# Altium schematic symbol library PowerProducts.SCHLIB: 595 symbols (part 5 of 6)

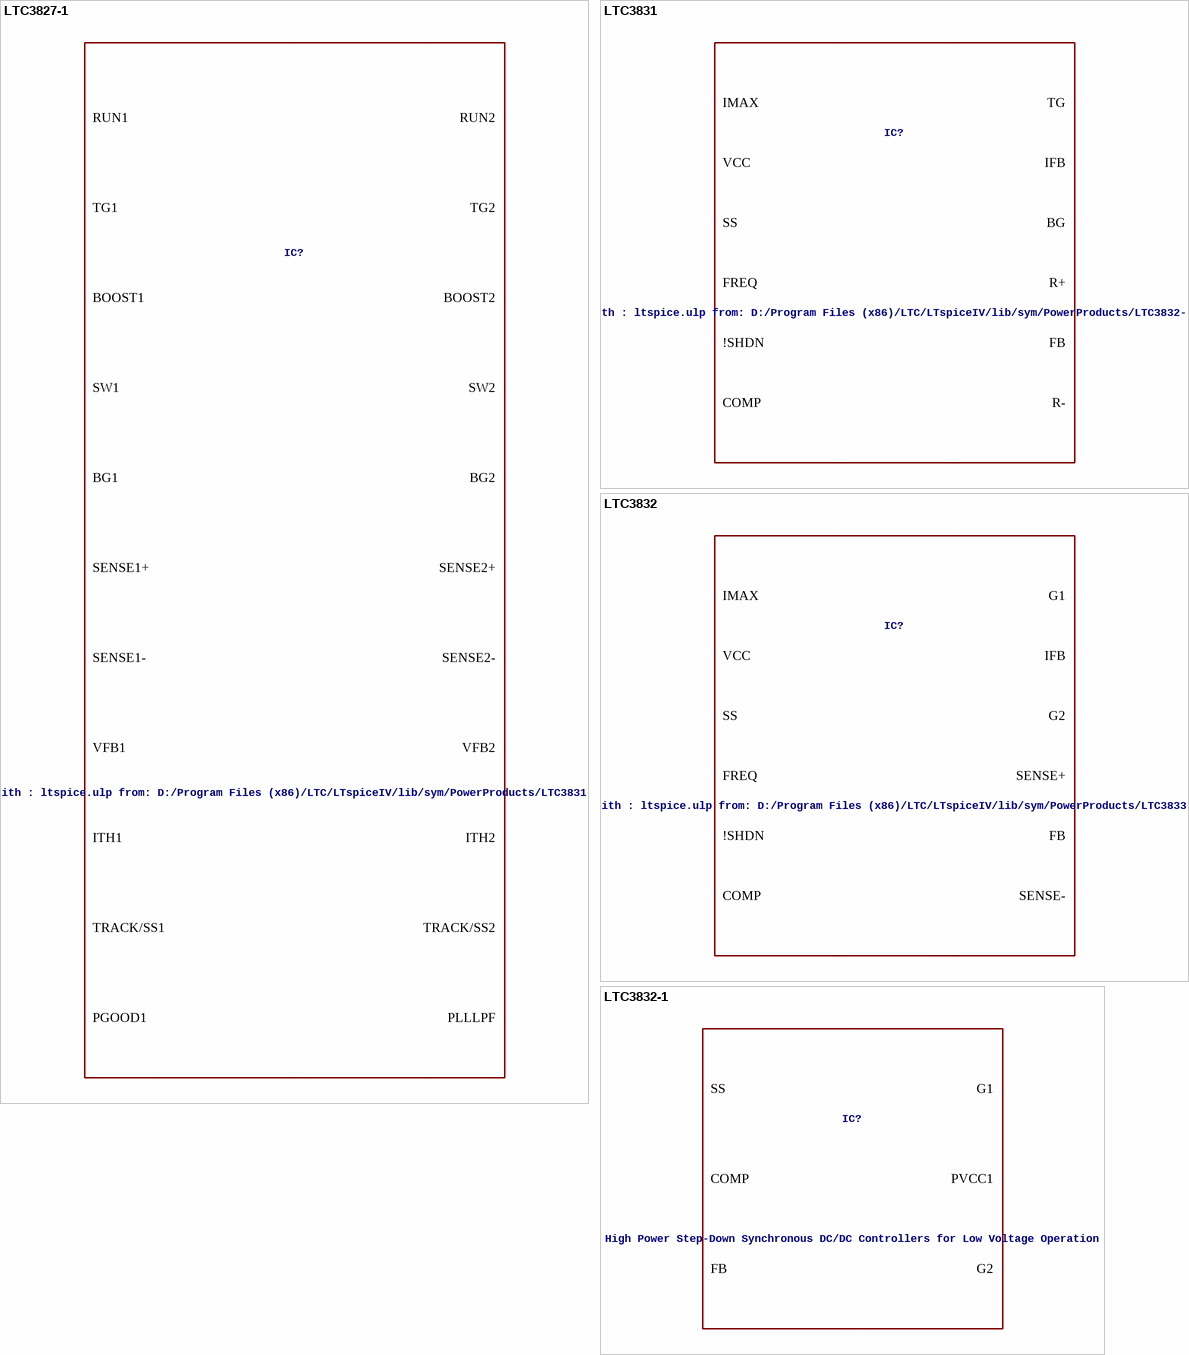
[diagram p89: symbols LTC3827-1 to LTC3832-1]

## LTC3827-1
designator IC?, comment LT-Spice library generated with : ltspice.ulp from: D:/Program Files (x86)/LTC/LTspiceIV/lib/sym/PowerProducts/LTC3831*.asy at 07.10.2012 18:38:17
VALUE2: LTC3827-1; SPICEMODEL: LTC3827-1.sub; SPICEPREFIX: X
footprint SSOP28(G)
pins: 1 ITH1, 2 VFB1, 3 SENSE1+, 4 SENSE1-, 5 PLLLPF, 6 PLLIN/MODE, 7 SGND, 8 RUN1, 9 RUN2, 10 SENSE2-, 11 SENSE2+, 12 VFB2, 13 ITH2, 14 TRACK/SS2, 15 TG2, 16 SW2, 17 BOOST2, 18 BG2, 19 INTVCC, 20 EXTVCC, 21 PGND, 22 VIN, 23 BG1, 24 BOOST1, 25 SW1, 26 TG1, 27 PGOOD1, 28 TRACK/SS1

## LTC3831
designator IC?, comment LT-Spice library generated with : ltspice.ulp from: D:/Program Files (x86)/LTC/LTspiceIV/lib/sym/PowerProducts/LTC3832-1*.asy at 07.10.2012 18:38:28
VALUE2: LTC3831; SPICEMODEL: LTC3831.sub; SPICEPREFIX: X
footprint SSOP16(GN)
pins: 1 TG, 2 PVCC1, 3 PGND, 4 SGND, 5 R-, 6 FB, 7 R+, 8 !SHDN, 9 SS, 10 COMP, 11 FREQ, 12 IMAX, 13 IFB, 14 VCC, 15 PVCC2, 16 BG

## LTC3832
designator IC?, comment LT-Spice library generated with : ltspice.ulp from: D:/Program Files (x86)/LTC/LTspiceIV/lib/sym/PowerProducts/LTC3833*.asy at 07.10.2012 18:38:37
VALUE2: LTC3832; SPICEMODEL: LTC3832.sub; SPICEPREFIX: X
footprint SSOP16(GN)
pins: 1 G1, 2 PVCC1, 3 PGND, 4 SGND, 5 SENSE-, 6 FB, 7 SENSE+, 8 !SHDN, 9 SS, 10 COMP, 11 FREQ, 12 IMAX, 13 IFB, 14 VCC, 15 PVCC2, 16 G2

## LTC3832-1
designator IC?, comment High Power Step-Down Synchronous DC/DC Controllers for Low Voltage Operation
VALUE2: LTC3832-1; SPICEMODEL: LTC3832-1.sub; SPICEPREFIX: X
footprint SO8(S8)
pins: 1 G1, 2 PVCC1, 3 GND, 4 FB, 5 SS, 6 COMP, 7 VCC/PVCC2, 8 G2

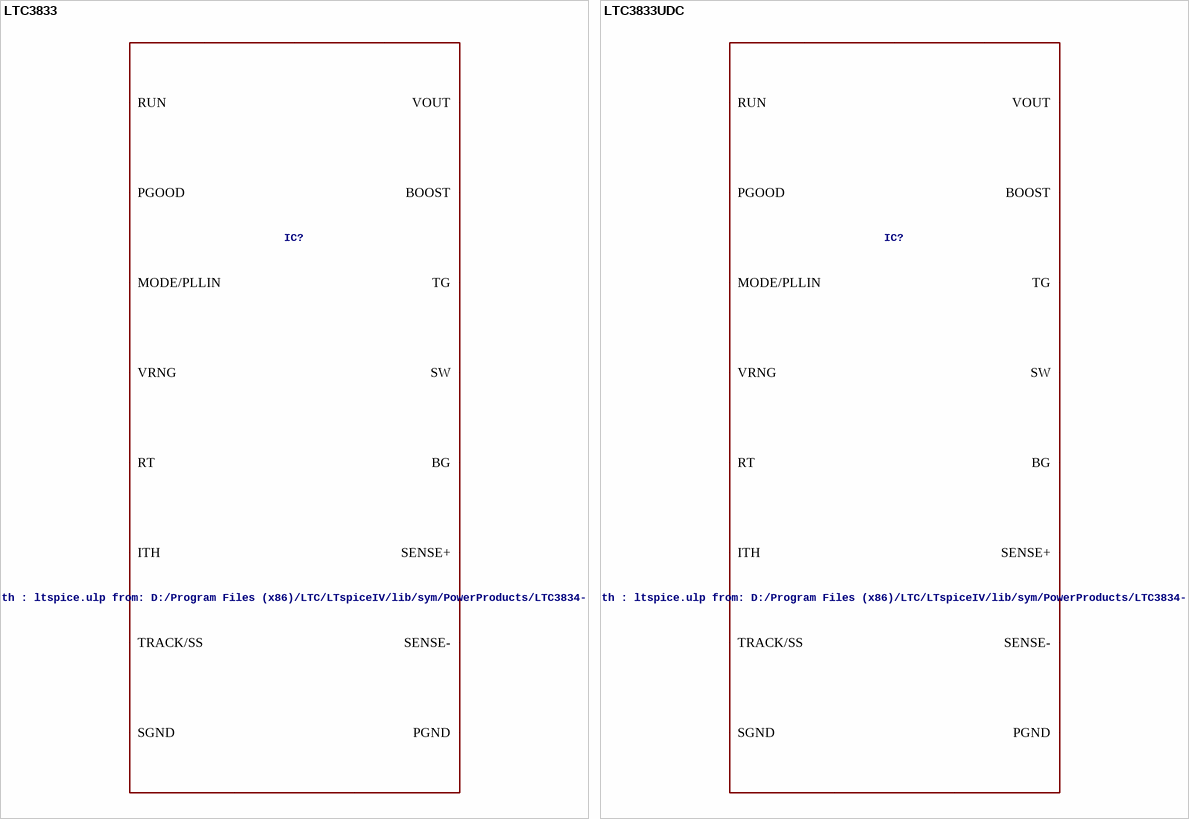
[diagram p90: symbols LTC3833 to LTC3833UDC]

## LTC3833
designator IC?, comment LT-Spice library generated with : ltspice.ulp from: D:/Program Files (x86)/LTC/LTspiceIV/lib/sym/PowerProducts/LTC3834-1*.asy at 07.10.2012 18:38:47
VALUE2: LTC3833; SPICEMODEL: LTC3833.sub; SPICEPREFIX: X
footprint TSSOP20CB(FE)
pins: 1 PGOOD, 2 SENSE+, 3 SENSE-, 4 VOUT, 5 VOSNS-, 6 VOSNS+, 7 TRACK/SS, 8 ITH, 9 VRNG, 10 RT, 11 RUN, 12 EXTVCC, 13 MODE/PLLIN, 14 VIN, 15 INTVCC, 16 PGND, 17 BG, 18 SW, 19 TG, 20 BOOST, 21 SGND

## LTC3833UDC
designator IC?, comment LT-Spice library generated with : ltspice.ulp from: D:/Program Files (x86)/LTC/LTspiceIV/lib/sym/PowerProducts/LTC3834-1*.asy at 07.10.2012 18:38:47
VALUE2: LTC3833; SPICEMODEL: LTC3833.sub; SPICEPREFIX: X
footprint QFN20(UDC)
pins: 1 VOSNS-, 2 VOSNS+, 3 TRACK/SS, 4 ITH, 5 VRNG, 6 RT, 7 RUN, 8 EXTVCC, 9 MODE/PLLIN, 10 VIN, 11 INTVCC, 12 PGND, 13 BG, 14 SW, 15 TG, 16 BOOST, 17 PGOOD, 18 SENSE+, 19 SENSE-, 20 VOUT, 21 SGND

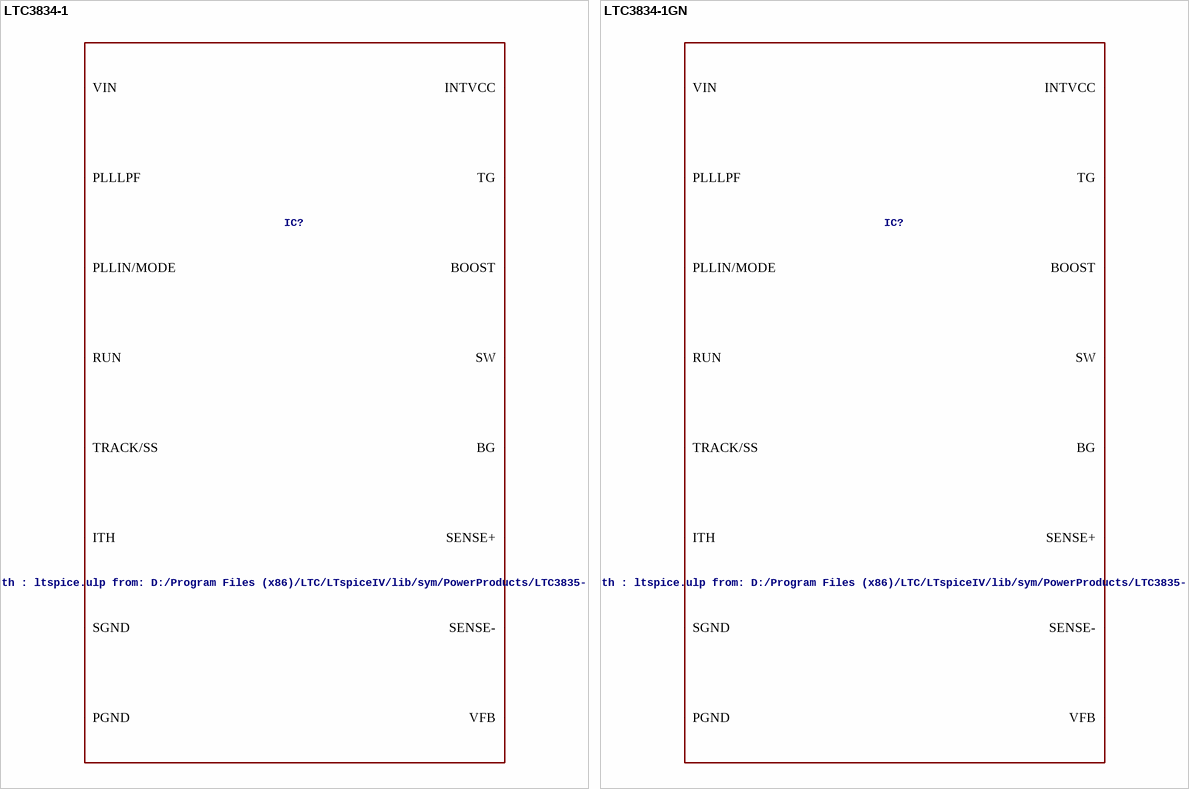
[diagram p91: symbols LTC3834-1 to LTC3834-1GN]

## LTC3834-1
designator IC?, comment LT-Spice library generated with : ltspice.ulp from: D:/Program Files (x86)/LTC/LTspiceIV/lib/sym/PowerProducts/LTC3835-1*.asy at 07.10.2012 18:38:58
VALUE2: LTC3834-1; SPICEMODEL: LTC3834-1.sub; SPICEPREFIX: X
footprint DFN16(DHC)
pins: 1 PLLLPF, 2 ITH, 3 TRACK/SS, 4 VFB, 5 17 SGND, 6 PGND, 7 BG, 8 INTVCC, 9 VIN, 10 SW, 11 TG, 12 BOOST, 13 RUN, 14 SENSE-, 15 SENSE+, 16 PLLIN/MODE

## LTC3834-1GN
designator IC?, comment LT-Spice library generated with : ltspice.ulp from: D:/Program Files (x86)/LTC/LTspiceIV/lib/sym/PowerProducts/LTC3835-1*.asy at 07.10.2012 18:38:58
VALUE2: LTC3834-1; SPICEMODEL: LTC3834-1.sub; SPICEPREFIX: X
footprint SSOP16(GN)
pins: 1 PLLLPF, 2 ITH, 3 TRACK/SS, 4 VFB, 5 SGND, 6 PGND, 7 BG, 8 INTVCC, 9 VIN, 10 SW, 11 TG, 12 BOOST, 13 RUN, 14 SENSE-, 15 SENSE+, 16 PLLIN/MODE

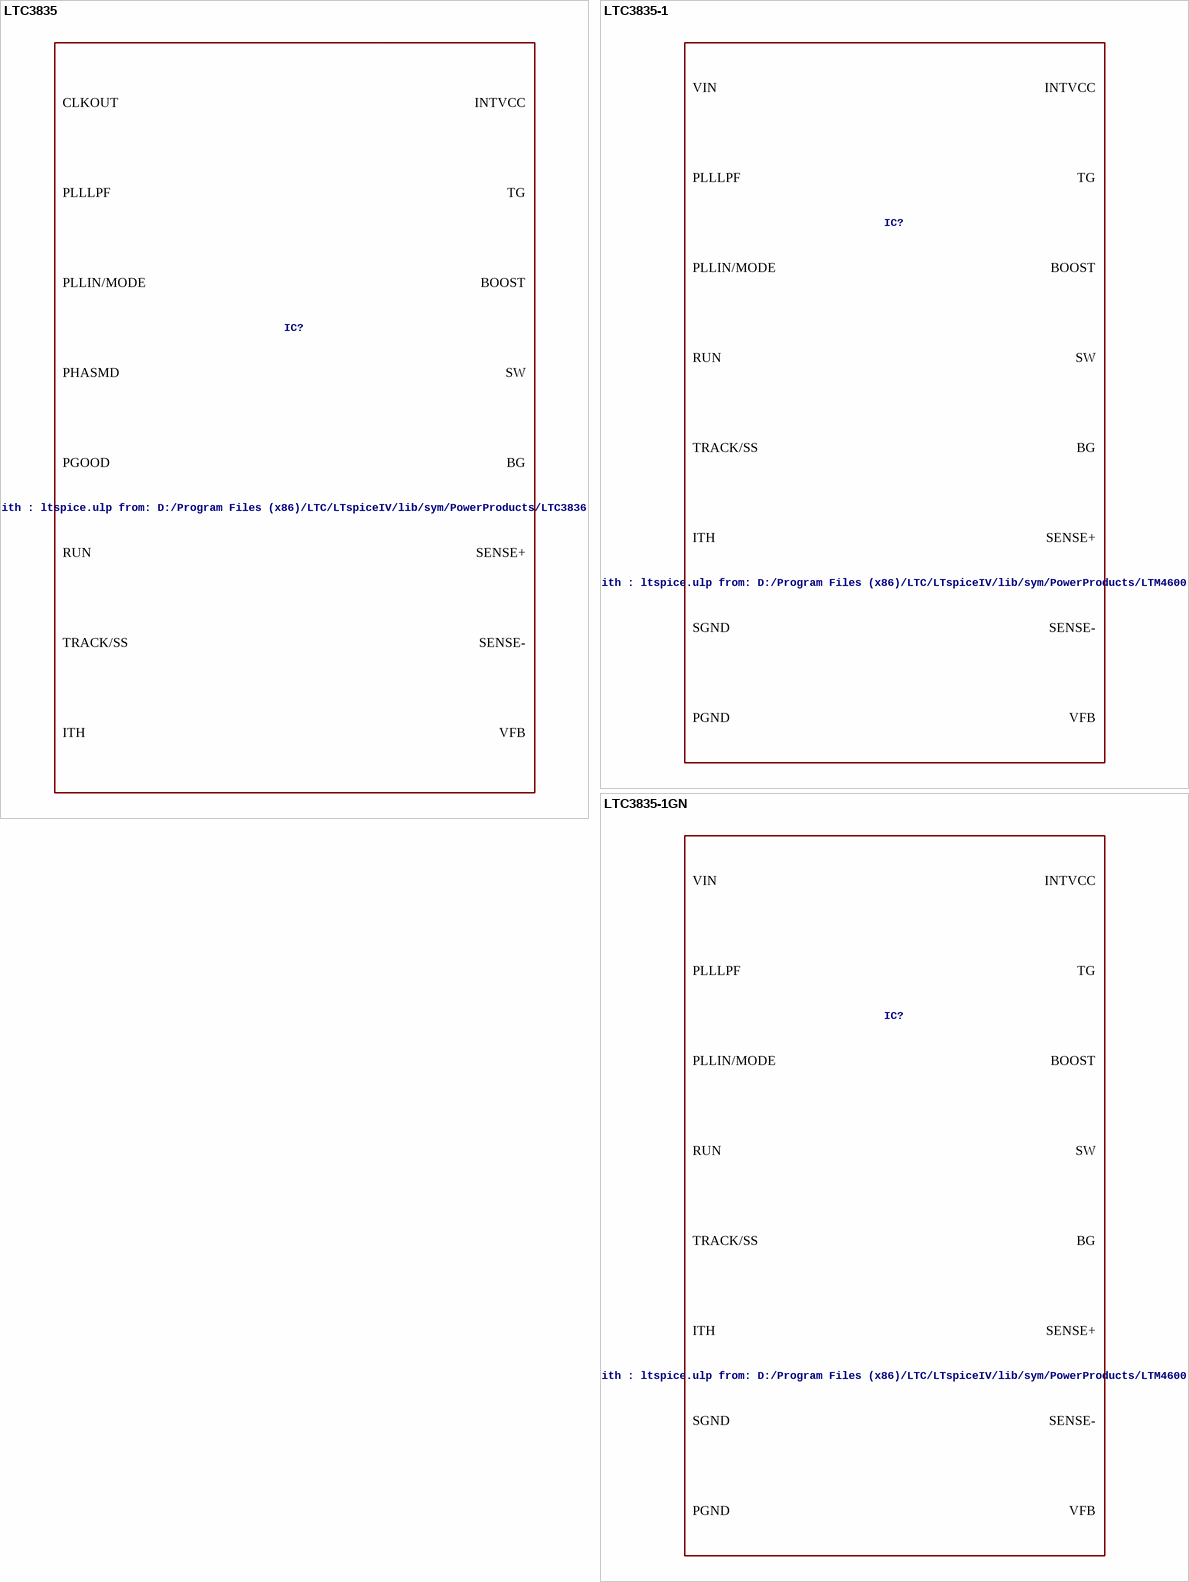
[diagram p92: symbols LTC3835 to LTC3835-1GN]

## LTC3835
designator IC?, comment LT-Spice library generated with : ltspice.ulp from: D:/Program Files (x86)/LTC/LTspiceIV/lib/sym/PowerProducts/LTC3836*.asy at 07.10.2012 18:39:33
VALUE2: LTC3835; SPICEMODEL: LTC3835.sub; SPICEPREFIX: X
footprint TSSOP20CB(FE)
pins: 1 CLKOUT, 2 PLLLPF, 3 ITH, 4 TRACK/SS, 5 VFB, 6 21 SGND, 7 PGND, 8 BG, 9 INTVCC, 10 EXTVCC, 11 VIN, 12 SW, 13 TG, 14 BOOST, 15 RUN, 16 SENSE-, 17 SENSE+, 18 PGOOD, 19 PLLIN/MODE, 20 PHASMD

## LTC3835-1
designator IC?, comment LT-Spice library generated with : ltspice.ulp from: D:/Program Files (x86)/LTC/LTspiceIV/lib/sym/PowerProducts/LTM4600*.asy at 07.10.2012 18:46:03
VALUE2: LTC3835-1; SPICEMODEL: LTC3835-1.sub; SPICEPREFIX: X
footprint DFN16(DHC)
pins: 1 PLLLPF, 2 ITH, 3 TRACK/SS, 4 VFB, 5 17 SGND, 6 PGND, 7 BG, 8 INTVCC, 9 VIN, 10 SW, 11 TG, 12 BOOST, 13 RUN, 14 SENSE-, 15 SENSE+, 16 PLLIN/MODE

## LTC3835-1GN
designator IC?, comment LT-Spice library generated with : ltspice.ulp from: D:/Program Files (x86)/LTC/LTspiceIV/lib/sym/PowerProducts/LTM4600*.asy at 07.10.2012 18:46:03
VALUE2: LTC3835-1; SPICEMODEL: LTC3835-1.sub; SPICEPREFIX: X
footprint SSOP16(GN)
pins: 1 PLLLPF, 2 ITH, 3 TRACK/SS, 4 VFB, 5 SGND, 6 PGND, 7 BG, 8 INTVCC, 9 VIN, 10 SW, 11 TG, 12 BOOST, 13 RUN, 14 SENSE-, 15 SENSE+, 16 PLLIN/MODE

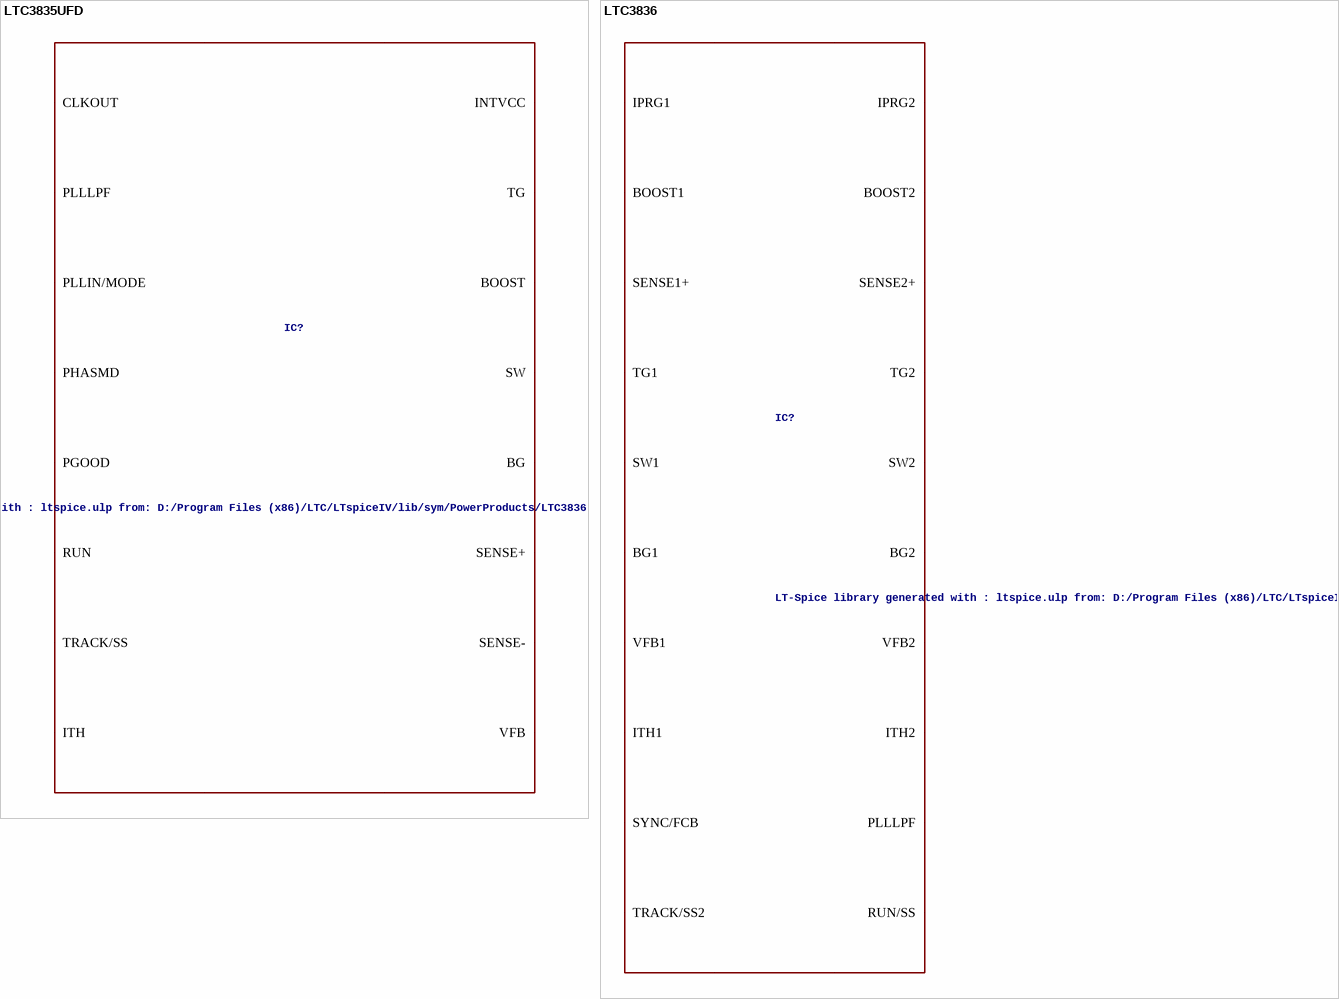
[diagram p93: symbols LTC3835UFD to LTC3836]

## LTC3835UFD
designator IC?, comment LT-Spice library generated with : ltspice.ulp from: D:/Program Files (x86)/LTC/LTspiceIV/lib/sym/PowerProducts/LTC3836*.asy at 07.10.2012 18:39:33
VALUE2: LTC3835; SPICEMODEL: LTC3835.sub; SPICEPREFIX: X
footprint QFN20(UFD)
pins: 1 ITH, 2 TRACK/SS, 3 VFB, 4 21 SGND, 5 PGND, 6 BG, 7 INTVCC, 8 EXTVCC, 9 VIN, 10 SW, 11 TG, 12 BOOST, 13 RUN, 14 SENSE-, 15 SENSE+, 16 PGOOD, 17 PLLIN/MODE, 18 PHASMD, 19 CLKOUT, 20 PLLLPF

## LTC3836
designator IC?, comment LT-Spice library generated with : ltspice.ulp from: D:/Program Files (x86)/LTC/LTspiceIV/lib/sym/PowerProducts/LTC3850-1*.asy at 07.10.2012 18:41:22
VALUE2: LTC3836; SPICEMODEL: LTC3836.sub; SPICEPREFIX: X
footprint SSOP28(GN)
pins: 1 SW1, 3 IPRG1, 4 VFB1, 5 ITH1, 6 IPRG2, 7 PLLLPF, 8 SGND, 9 VIN, 10 TRACK/SS2, 11 VFB2, 12 ITH2, 13 PGOOD, 14 SW2, 15 SENSE2+, 16 BOOST2, 17 22 26 PGND, 19 BG2, 20 RUN/SS, 21 TG2, 23 TG1, 24 SYNC/FCB, 25 BG1, 27 BOOST1, 28 SENSE1+

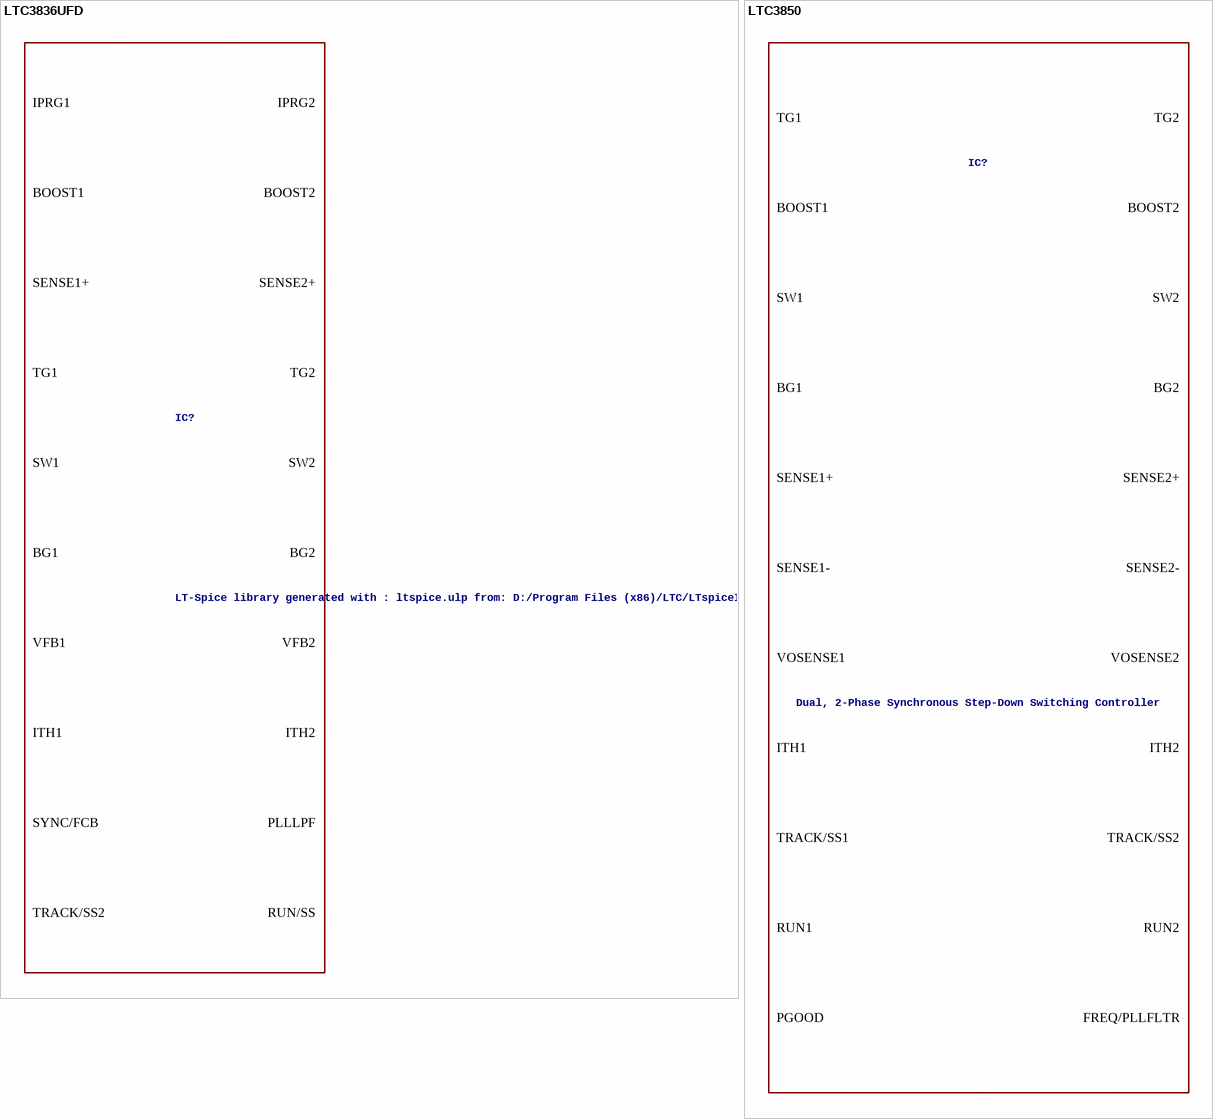
[diagram p94: symbols LTC3836UFD to LTC3850]

## LTC3836UFD
designator IC?, comment LT-Spice library generated with : ltspice.ulp from: D:/Program Files (x86)/LTC/LTspiceIV/lib/sym/PowerProducts/LTC3850-1*.asy at 07.10.2012 18:41:22
VALUE2: LTC3836; SPICEMODEL: LTC3836.sub; SPICEPREFIX: X
footprint QFN28(UFD)
pins: 1 VFB1, 2 ITH1, 3 IPRG2, 4 PLLLPF, 5 SGND, 6 VIN, 7 TRACK/SS2, 8 VFB2, 9 ITH2, 10 PGOOD, 11 SW2, 12 SENSE2+, 13 BOOST2, 14 19 23 29 PGND, 15 BG2, 17 RUN/SS, 18 TG2, 20 TG1, 21 SYNC/FCB, 22 BG1, 24 BOOST1, 25 SENSE1+, 26 SW1, 27 IPRG1

## LTC3850
designator IC?, comment Dual, 2-Phase Synchronous Step-Down Switching Controller
VALUE2: LTC3850; SPICEMODEL: LTC3850.sub; SPICEPREFIX: X
footprint QFN28(UF)
pins: 1 TRACK/SS1, 2 ITH1, 3 VOSENSE1, 4 VOSENSE2, 5 ITH2, 6 TRACK/SS2, 7 SENSE2-, 8 SENSE2+, 9 RUN2, 10 ILIM, 11 EXTVCC, 12 PGOOD, 13 SW2, 14 TG2, 15 BOOST2, 16 PGND, 17 BG2, 18 INTVCC, 19 VIN, 20 BG1, 21 BOOST1, 22 TG1, 23 SW1, 24 FCB/PLLIN, 25 FREQ/PLLFLTR, 26 RUN1, 27 SENSE1+, 28 SENSE1-, 29 SGND

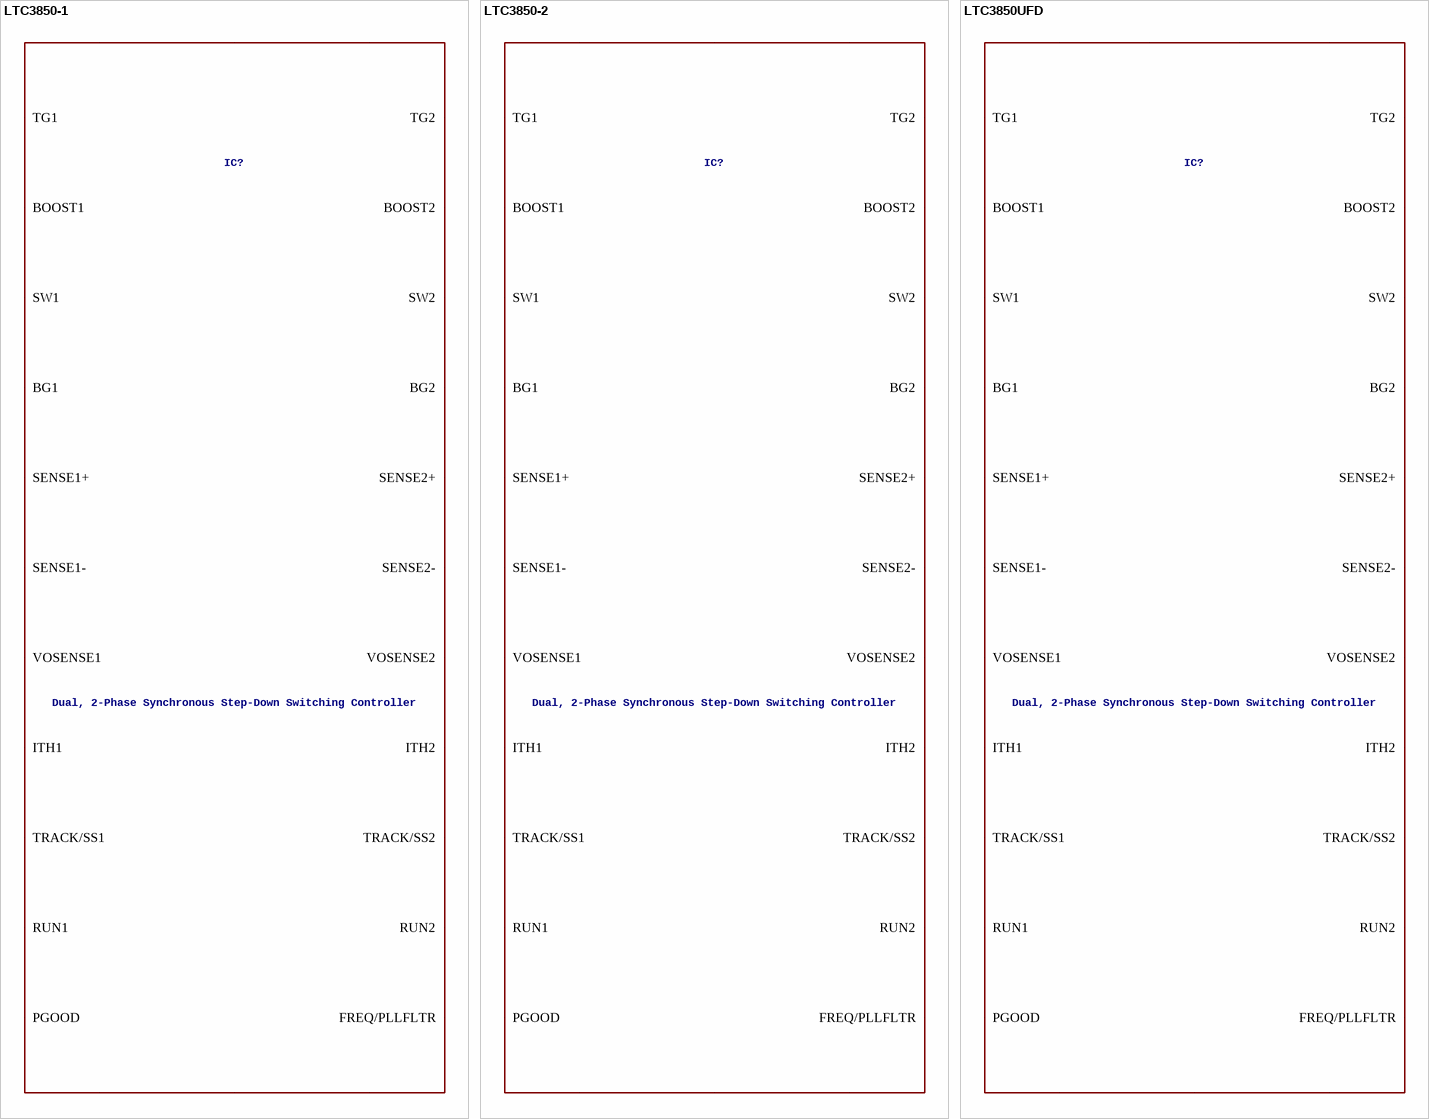
[diagram p95: symbols LTC3850-1 to LTC3850UFD]

## LTC3850-1
designator IC?, comment Dual, 2-Phase Synchronous Step-Down Switching Controller
VALUE2: LTC3850-1; SPICEMODEL: LTC3850-1.sub; SPICEPREFIX: X
footprint SSOP28(GN)
pins: 1 RUN1, 2 SENSE1+, 3 SENSE1-, 4 TRACK/SS1, 5 ITH1, 6 VOSENSE1, 7 SGND, 8 VOSENSE2, 9 ITH2, 10 TRACK/SS2, 11 SENSE2-, 12 SENSE2+, 13 RUN2, 14 EXTVCC, 15 PGOOD, 16 SW2, 17 TG2, 18 BOOST2, 19 PGND, 20 BG2, 21 INTVCC, 22 VIN, 23 BG1, 24 BOOST1, 25 TG1, 26 SW1, 27 FCB/PLLIN, 28 FREQ/PLLFLTR

## LTC3850-2
designator IC?, comment Dual, 2-Phase Synchronous Step-Down Switching Controller
VALUE2: LTC3850-1; SPICEMODEL: LTC3850-1.sub; SPICEPREFIX: X
footprint SSOP28(GN)
pins: 1 RUN1, 2 SENSE1+, 3 SENSE1-, 4 VOSENSE1, 5 TRACK/SS1, 6 ITH1, 7 SGND, 8 ITH2, 9 TRACK/SS2, 10 VOSENSE2, 11 SENSE2-, 12 SENSE2+, 13 RUN2, 14 EXTVCC, 15 PGOOD, 16 SW2, 17 TG2, 18 BOOST2, 19 PGND, 20 BG2, 21 INTVCC, 22 VIN, 23 BG1, 24 BOOST1, 25 TG1, 26 SW1, 27 FCB/PLLIN, 28 FREQ/PLLFLTR

## LTC3850UFD
designator IC?, comment Dual, 2-Phase Synchronous Step-Down Switching Controller
VALUE2: LTC3850; SPICEMODEL: LTC3850.sub; SPICEPREFIX: X
footprint QFN28(UFD)
pins: 1 SENSE1-, 2 TRACK/SS1, 3 ITH1, 4 VOSENSE1, 5 VOSENSE2, 6 ITH2, 7 TRACK/SS2, 8 SENSE2-, 9 SENSE2+, 10 RUN2, 11 ILIM, 12 EXTVCC, 13 PGOOD, 14 SW2, 15 TG2, 16 BOOST2, 17 PGND, 18 BG2, 19 INTVCC, 20 VIN, 21 BG1, 22 BOOST1, 23 TG1, 24 SW1, 25 FCB/PLLIN, 26 FREQ/PLLFLTR, 27 RUN1, 28 SENSE1+, 29 SGND

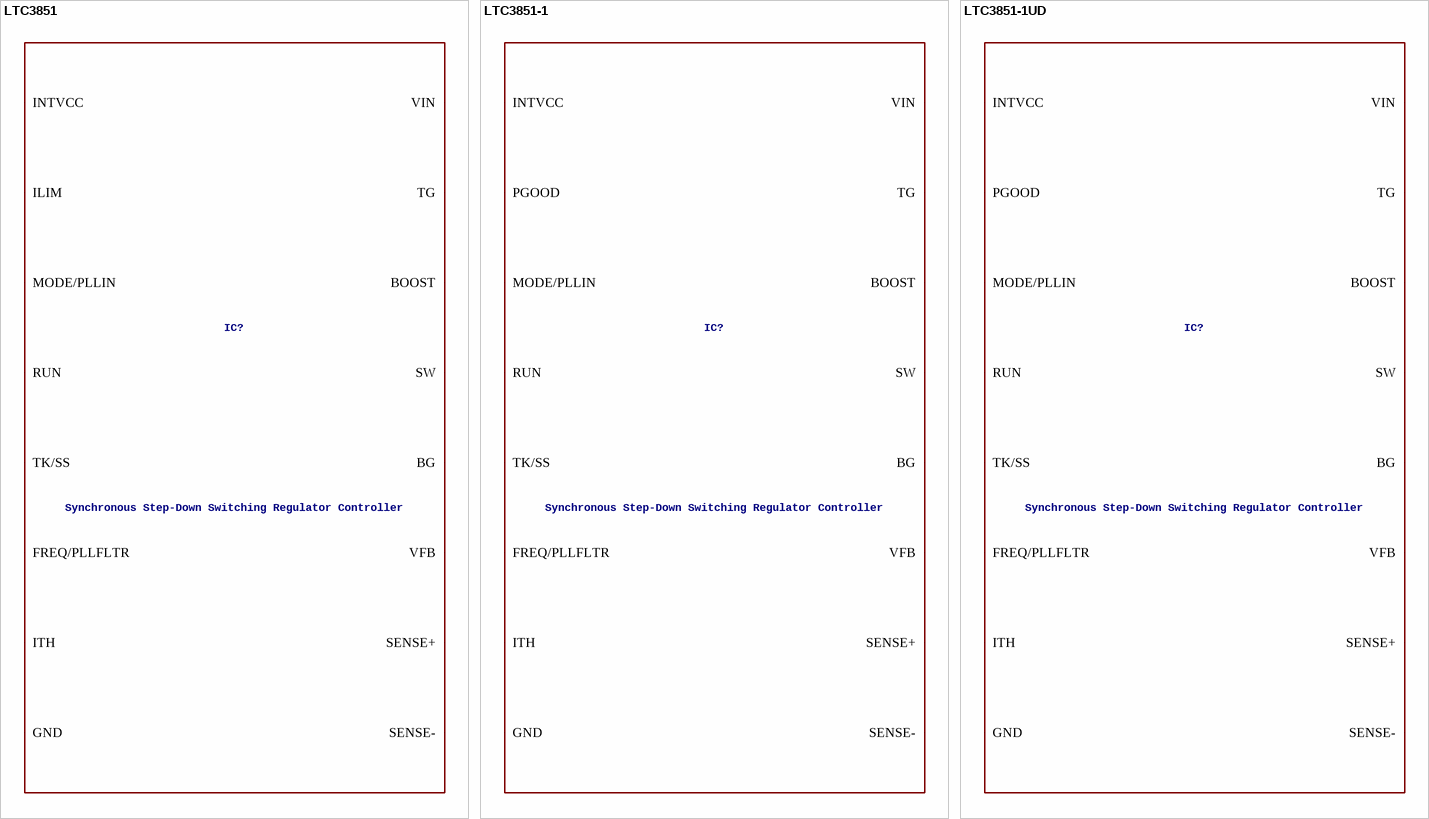
[diagram p96: symbols LTC3851 to LTC3851-1UD]

## LTC3851
designator IC?, comment Synchronous Step-Down Switching Regulator Controller
VALUE2: LTC3851; SPICEMODEL: LTC3851.sub; SPICEPREFIX: X
footprint SSOP16(GN)
pins: 1 MODE/PLLIN, 2 FREQ/PLLFLTR, 3 RUN, 4 TK/SS, 5 ITH, 6 VFB, 7 SENSE-, 8 SENSE+, 9 ILIM, 10 GND, 11 BG, 12 INTVCC, 13 VIN, 14 BOOST, 15 TG, 16 SW

## LTC3851-1
designator IC?, comment Synchronous Step-Down Switching Regulator Controller
VALUE2: LTC3851-1; SPICEMODEL: LTC3851-1.sub; SPICEPREFIX: X
footprint MSOP16(MSE)
pins: 1 MODE/PLLIN, 2 FREQ/PLLFLTR, 3 RUN, 4 TK/SS, 5 ITH, 6 VFB, 7 SENSE-, 8 SENSE+, 9 PGOOD, 10 17 GND, 11 BG, 12 INTVCC, 13 VIN, 14 BOOST, 15 TG, 16 SW

## LTC3851-1UD
designator IC?, comment Synchronous Step-Down Switching Regulator Controller
VALUE2: LTC3851-1; SPICEMODEL: LTC3851-1.sub; SPICEPREFIX: X
footprint QFN16(UD)
pins: 1 RUN, 2 TK/SS, 3 ITH, 4 VFB, 5 SENSE-, 6 SENSE+, 7 PGOOD, 8 17 GND, 9 BG, 10 INTVCC, 11 VIN, 12 BOOST, 13 TG, 14 SW, 15 MODE/PLLIN, 16 FREQ/PLLFLTR

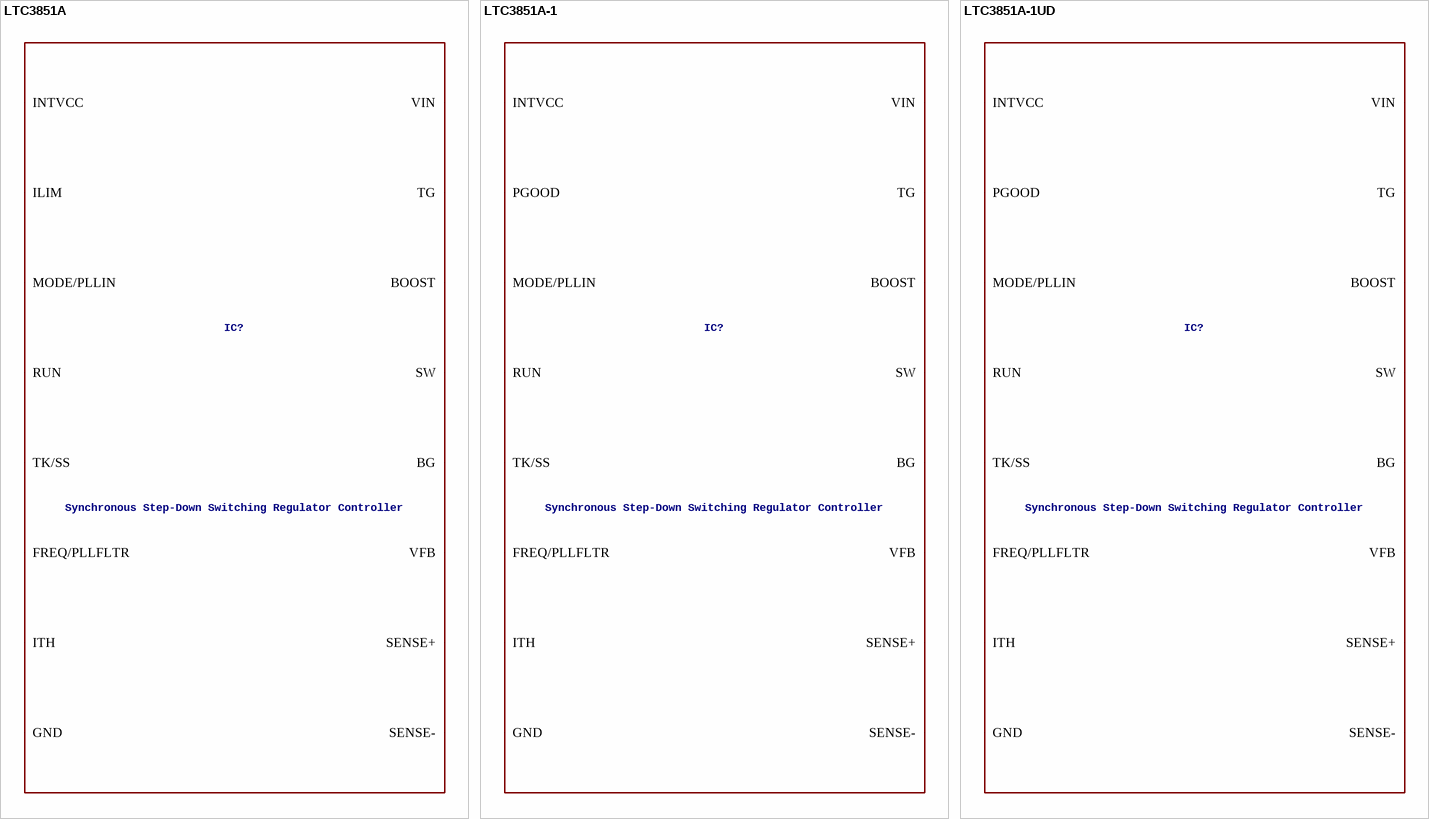
[diagram p97: symbols LTC3851A to LTC3851A-1UD]

## LTC3851A
designator IC?, comment Synchronous Step-Down Switching Regulator Controller
VALUE2: LTC3851A; SPICEMODEL: LTC3851A.sub; SPICEPREFIX: X
footprint SSOP16(GN)
pins: 1 MODE/PLLIN, 2 FREQ/PLLFLTR, 3 RUN, 4 TK/SS, 5 ITH, 6 VFB, 7 SENSE-, 8 SENSE+, 9 ILIM, 10 GND, 11 BG, 12 INTVCC, 13 VIN, 14 BOOST, 15 TG, 16 SW

## LTC3851A-1
designator IC?, comment Synchronous Step-Down Switching Regulator Controller
VALUE2: LTC3851A-1; SPICEMODEL: LTC3851A-1.sub; SPICEPREFIX: X
footprint MSOP16(MSE)
pins: 1 MODE/PLLIN, 2 FREQ/PLLFLTR, 3 RUN, 4 TK/SS, 5 ITH, 6 VFB, 7 SENSE-, 8 SENSE+, 9 PGOOD, 10 17 GND, 11 BG, 12 INTVCC, 13 VIN, 14 BOOST, 15 TG, 16 SW

## LTC3851A-1UD
designator IC?, comment Synchronous Step-Down Switching Regulator Controller
VALUE2: LTC3851A-1; SPICEMODEL: LTC3851A-1.sub; SPICEPREFIX: X
footprint QFN16(UD)
pins: 1 RUN, 2 TK/SS, 3 ITH, 4 VFB, 5 SENSE-, 6 SENSE+, 7 PGOOD, 8 17 GND, 9 BG, 10 INTVCC, 11 VIN, 12 BOOST, 13 TG, 14 SW, 15 MODE/PLLIN, 16 FREQ/PLLFLTR

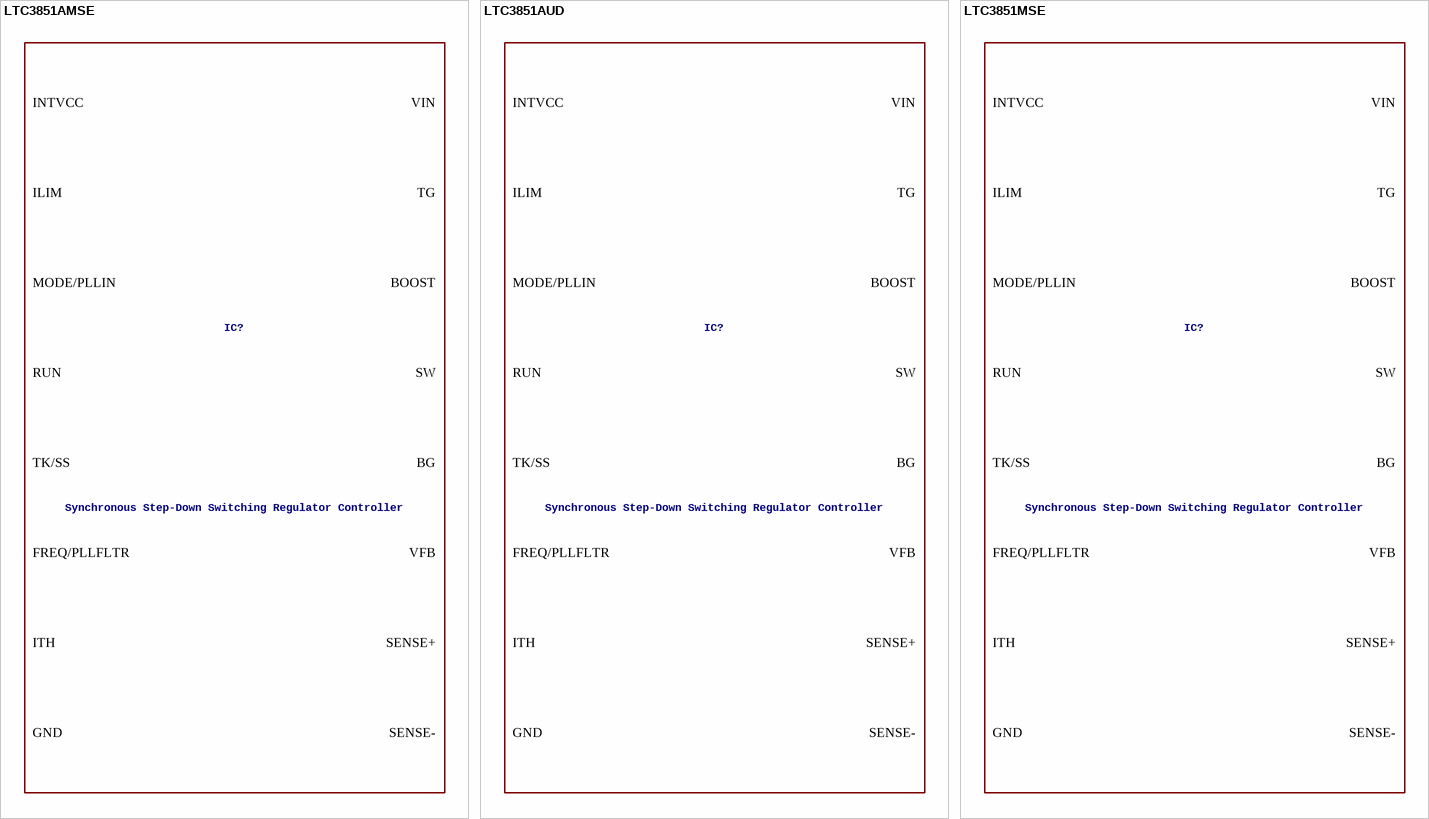
[diagram p98: symbols LTC3851AMSE to LTC3851MSE]

## LTC3851AMSE
designator IC?, comment Synchronous Step-Down Switching Regulator Controller
VALUE2: LTC3851A; SPICEMODEL: LTC3851A.sub; SPICEPREFIX: X
footprint MSOP16(MSE)
pins: 1 MODE/PLLIN, 2 FREQ/PLLFLTR, 3 RUN, 4 TK/SS, 5 ITH, 6 VFB, 7 SENSE-, 8 SENSE+, 9 ILIM, 10 17 GND, 11 BG, 12 INTVCC, 13 VIN, 14 BOOST, 15 TG, 16 SW

## LTC3851AUD
designator IC?, comment Synchronous Step-Down Switching Regulator Controller
VALUE2: LTC3851A; SPICEMODEL: LTC3851A.sub; SPICEPREFIX: X
footprint QFN16(UD)
pins: 1 RUN, 2 TK/SS, 3 ITH, 4 VFB, 5 SENSE-, 6 SENSE+, 7 ILIM, 8 17 GND, 9 BG, 10 INTVCC, 11 VIN, 12 BOOST, 13 TG, 14 SW, 15 MODE/PLLIN, 16 FREQ/PLLFLTR

## LTC3851MSE
designator IC?, comment Synchronous Step-Down Switching Regulator Controller
VALUE2: LTC3851; SPICEMODEL: LTC3851.sub; SPICEPREFIX: X
footprint MSOP16(MSE)
pins: 1 MODE/PLLIN, 2 FREQ/PLLFLTR, 3 RUN, 4 TK/SS, 5 ITH, 6 VFB, 7 SENSE-, 8 SENSE+, 9 ILIM, 10 17 GND, 11 BG, 12 INTVCC, 13 VIN, 14 BOOST, 15 TG, 16 SW

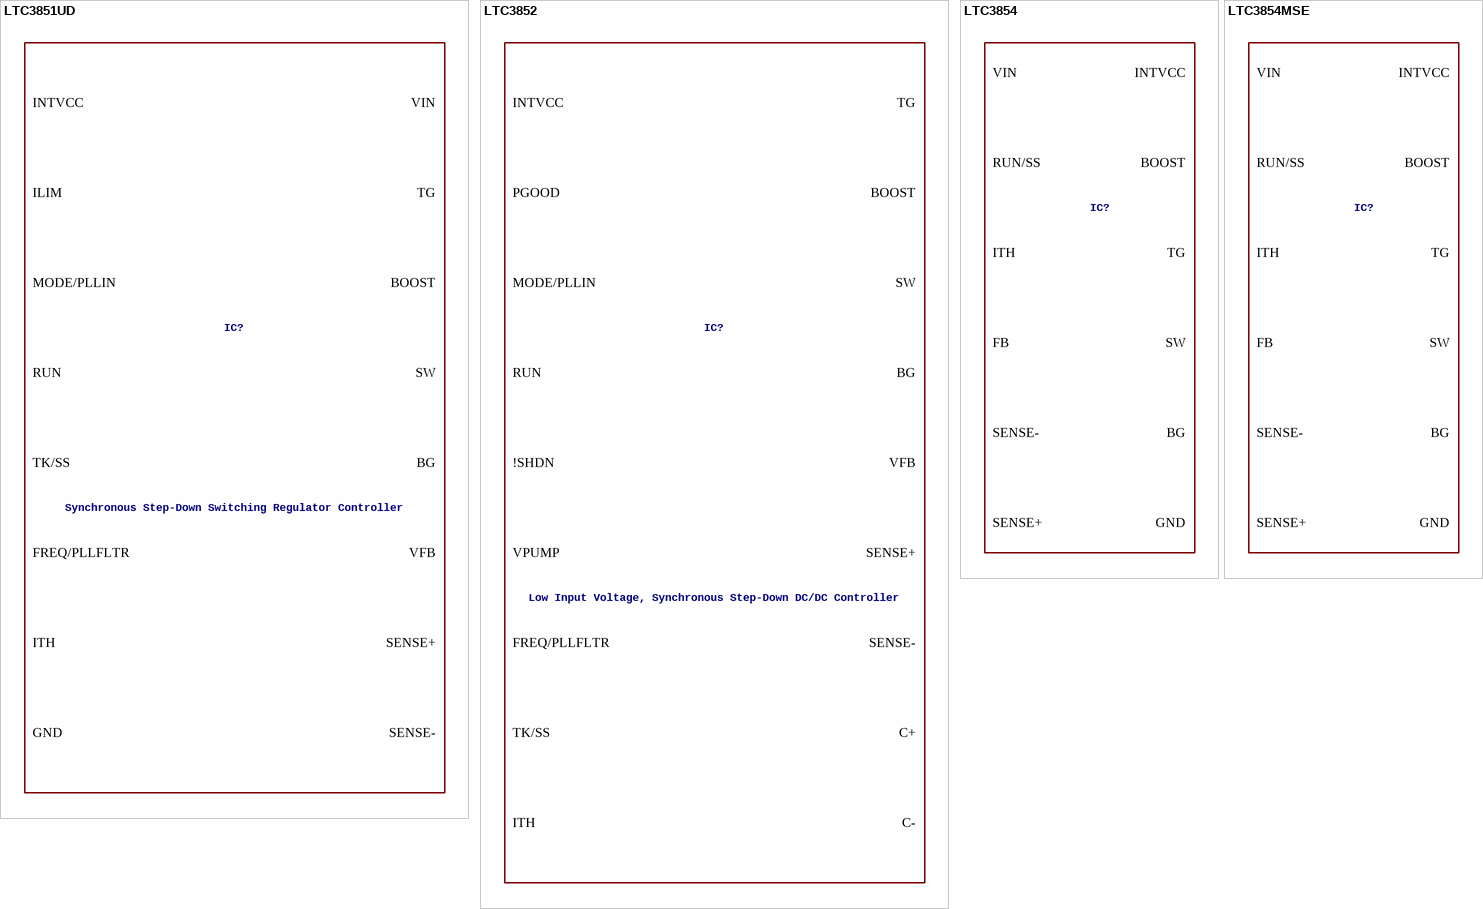
[diagram p99: symbols LTC3851UD to LTC3854MSE]

## LTC3851UD
designator IC?, comment Synchronous Step-Down Switching Regulator Controller
VALUE2: LTC3851; SPICEMODEL: LTC3851.sub; SPICEPREFIX: X
footprint QFN16(UD)
pins: 1 RUN, 2 TK/SS, 3 ITH, 4 VFB, 5 SENSE-, 6 SENSE+, 7 ILIM, 8 17 GND, 9 BG, 10 INTVCC, 11 VIN, 12 BOOST, 13 TG, 14 SW, 15 MODE/PLLIN, 16 FREQ/PLLFLTR

## LTC3852
designator IC?, comment Low Input Voltage, Synchronous Step-Down DC/DC Controller
VALUE2: LTC3852; SPICEMODEL: LTC3852.sub; SPICEPREFIX: X
footprint QFN24(UDD)
pins: 1 SENSE-, 2 SENSE+, 3 PGOOD, 4 GND2, 5 BG, 7 C+, 8 C-, 10 !SHDN, 11 25 GND1, 12 VIN1, 13 VPUMP, 14 INTVCC, 15 VIN2, 16 BOOST, 17 TG, 18 SW, 19 MODE/PLLIN, 20 FREQ/PLLFLTR, 21 RUN, 22 TK/SS, 23 ITH, 24 VFB

## LTC3854
designator IC?, comment Small Footprint, Wide VIN Range Synchronous Step-Down DC/DC Controller  (value not drawn)
VALUE2: LTC3854; SPICEMODEL: LTC3854.sub; SPICEPREFIX: X
footprint DFN12(DDB)
pins: 1 FB, 2 ITH, 3 RUN/SS, 4 BOOST, 5 TG, 6 SW, 7 13 GND, 8 BG, 9 INTVCC, 10 VIN, 11 SENSE-, 12 SENSE+

## LTC3854MSE
designator IC?, comment Small Footprint, Wide VIN Range Synchronous Step-Down DC/DC Controller  (value not drawn)
VALUE2: LTC3854; SPICEMODEL: LTC3854.sub; SPICEPREFIX: X
footprint MSOP12(MSE)
pins: 1 FB, 2 ITH, 3 RUN/SS, 4 BOOST, 5 TG, 6 SW, 7 13 GND, 8 BG, 9 INTVCC, 10 VIN, 11 SENSE-, 12 SENSE+

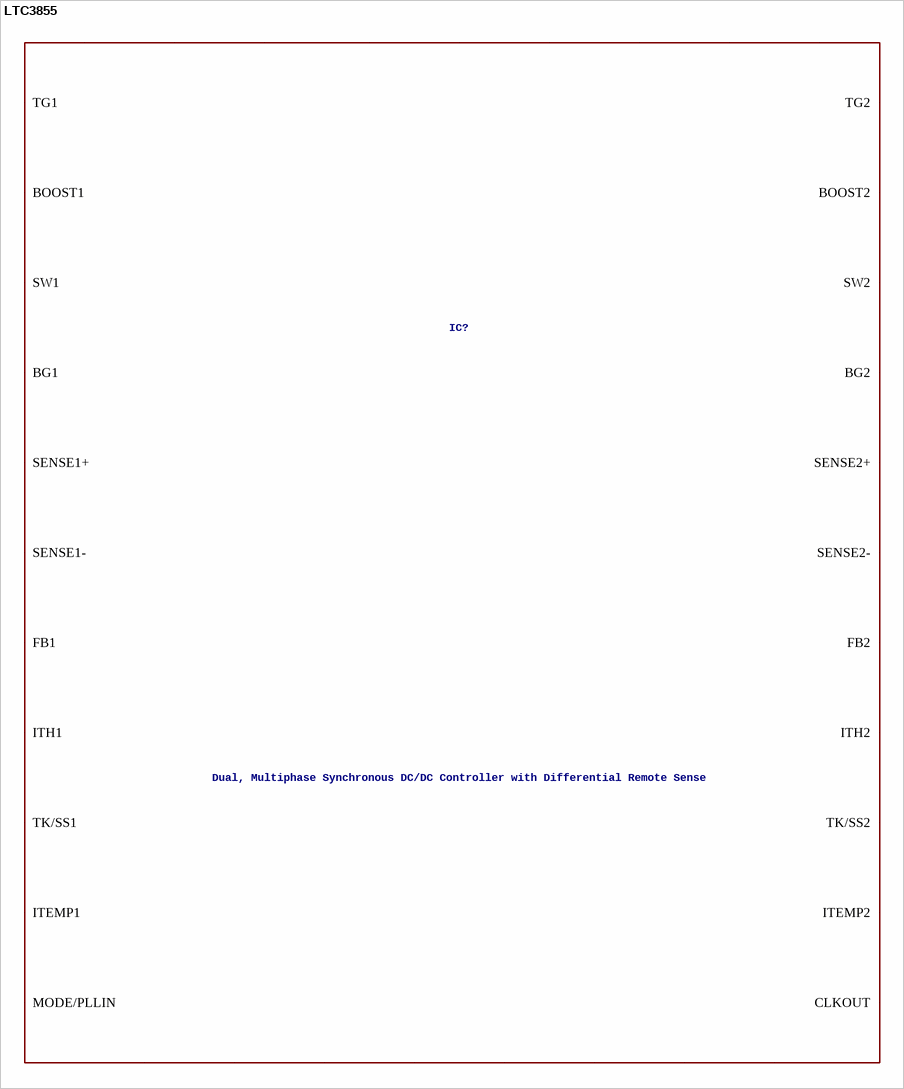
[diagram p100: symbol LTC3855]

## LTC3855
designator IC?, comment Dual, Multiphase Synchronous DC/DC Controller with Differential Remote Sense
VALUE2: LTC3855; SPICEMODEL: LTC3855.sub; SPICEPREFIX: X
footprint TSSOP38AA(FE)
pins: 1 ITEMP2, 2 ITEMP1, 3 RUN1, 4 SENSE1+, 5 SENSE1-, 6 TK/SS1, 7 ITH1, 8 FB1, 9 FB2, 10 ITH2, 11 TK/SS2, 12 SENSE2+, 13 SENSE2-, 14 DIFFP, 15 DIFFN, 16 DIFFOUT, 17 RUN2, 18 ILIM1, 19 ILIM2, 20 PGOOD1, 21 PGOOD2, 22 SW2, 23 TG2, 24 BOOST2, 25 PGND2, 26 BG2, 27 EXTVCC, 28 INTVCC, 29 VIN, 30 BG1, 31 PGND1, 32 BOOST1, 33 TG1, 34 SW1, 35 CLKOUT, 36 PHASEMD, 37 MODE/PLLIN, 38 FREQ, 39 SGND

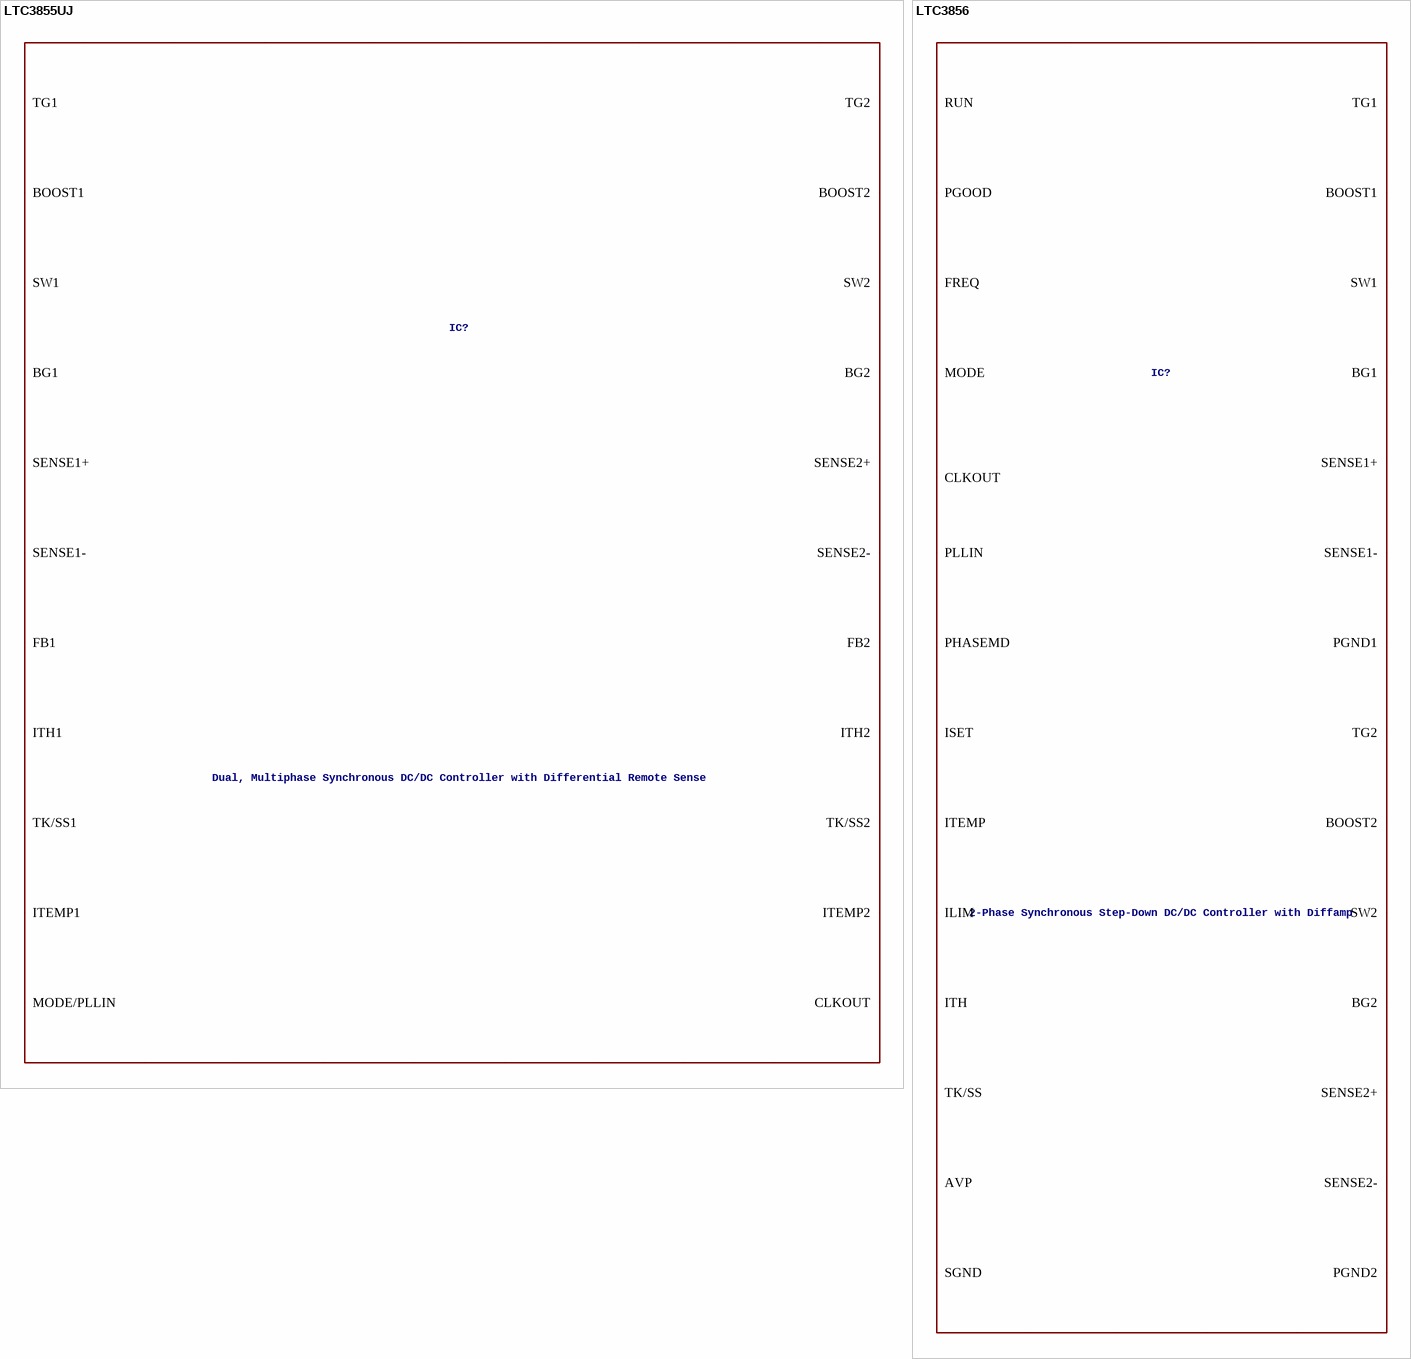
[diagram p101: symbols LTC3855UJ to LTC3856]

## LTC3855UJ
designator IC?, comment Dual, Multiphase Synchronous DC/DC Controller with Differential Remote Sense
VALUE2: LTC3855; SPICEMODEL: LTC3855.sub; SPICEPREFIX: X
footprint QFN40(UJ)
pins: 1 TK/SS1, 2 ITH1, 3 FB1, 4 41 SGND, 5 FB2, 6 ITH2, 7 TK/SS2, 8 SENSE2+, 9 SENSE2-, 10 DIFFP, 11 DIFFN, 12 DIFFOUT, 13 RUN2, 14 ILIM1, 15 ILIM2, 16 PGOOD1, 17 PGOOD2, 19 SW2, 20 TG2, 21 BOOST2, 22 PGND2, 23 BG2, 24 EXTVCC, 25 INTVCC, 26 VIN, 27 BG1, 28 PGND1, 29 BOOST1, 30 TG1, 31 SW1, 32 CLKOUT, 33 PHASEMD, 34 MODE/PLLIN, 35 FREQ, 36 ITEMP2, 37 ITEMP1, 38 RUN1, 39 SENSE1+, 40 SENSE1-

## LTC3856
designator IC?, comment 2-Phase Synchronous Step-Down DC/DC Controller with Diffamp
VALUE2: LTC3856; SPICEMODEL: LTC3856.sub; SPICEPREFIX: X
footprint TSSOP38AA(FE)
pins: 1 FREQ, 2 RUN, 3 SENSE1+, 4 SENSE1-, 6 TK/SS, 7 FB, 8 ITH, 9 39 SGND, 10 AVP, 11 ITEMP, 12 PHASEMD, 13 SENSE2+, 14 SENSE2-, 15 DIFFP, 16 DIFFN, 17 DIFFOUT, 18 ISET, 19 ILIM, 20 MODE, 21 PGOOD, 22 SW2, 23 TG2, 24 BOOST2, 26 PGND2, 27 BG2, 28 EXTVCC, 29 INTVCC, 30 VIN, 31 BG1, 32 PGND1, 33 BOOST1, 35 TG1, 36 SW1, 37 CLKOUT, 38 PLLIN

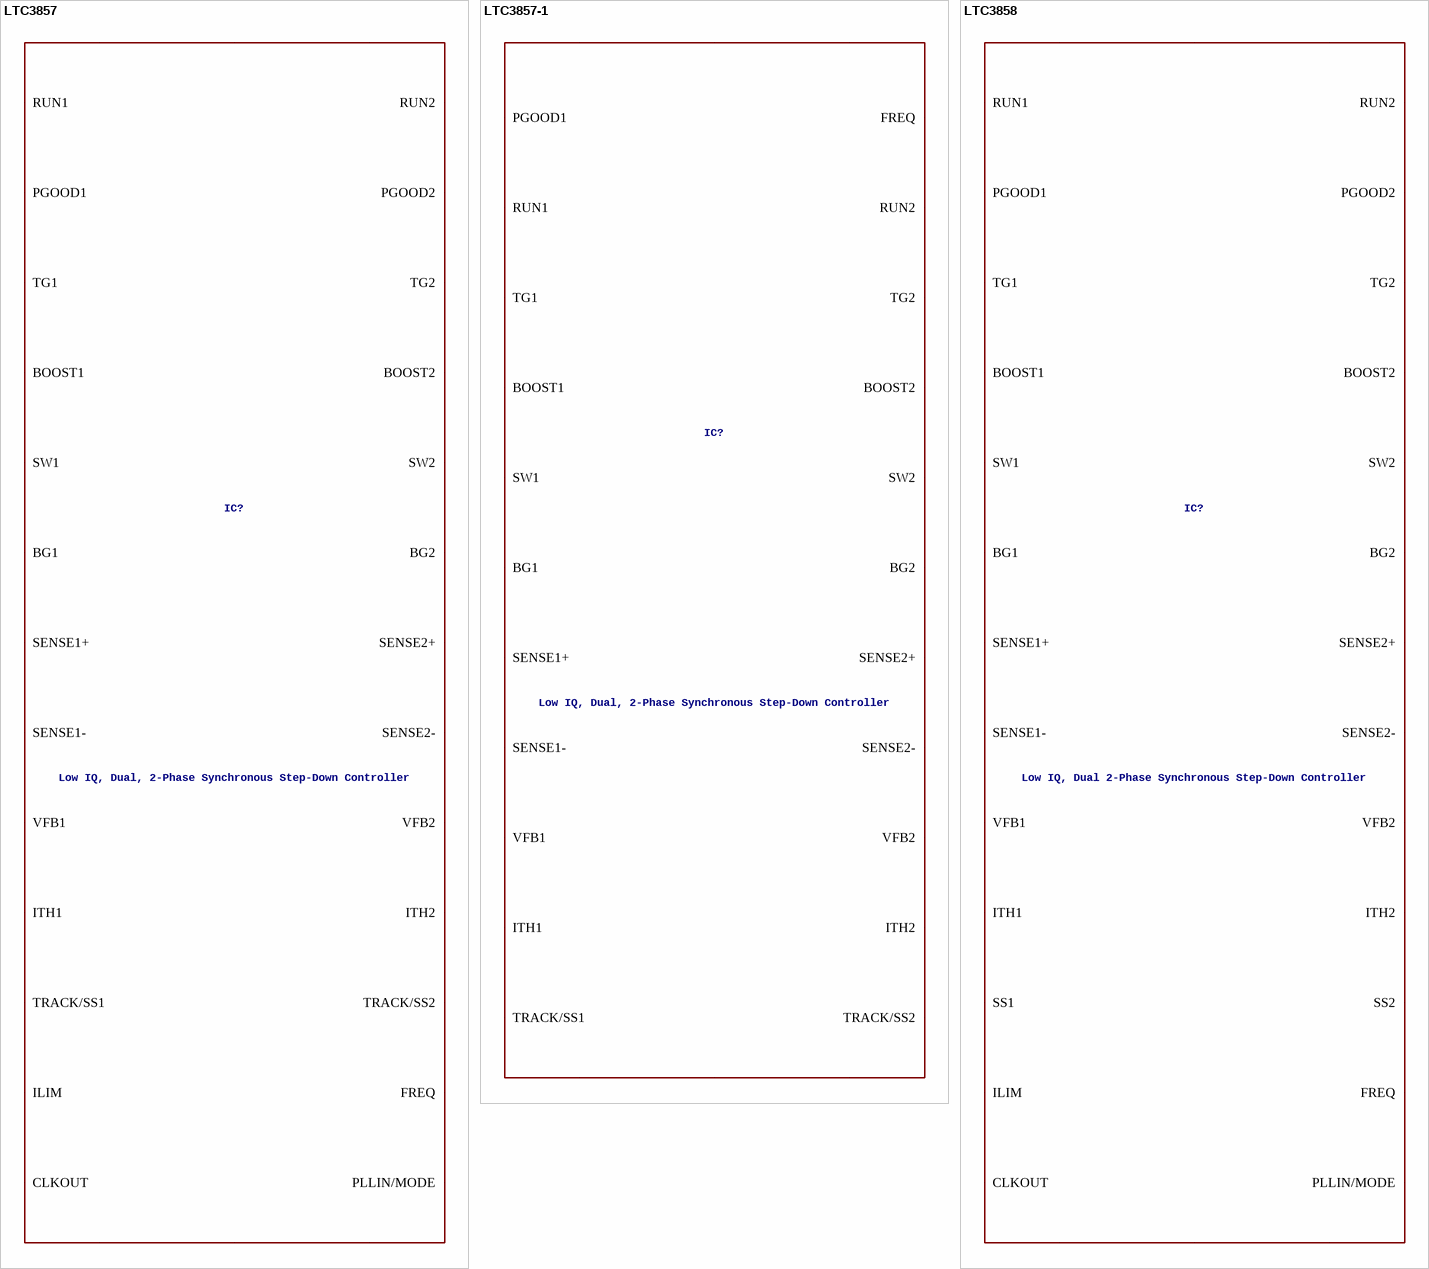
[diagram p102: symbols LTC3857 to LTC3858]

## LTC3857
designator IC?, comment Low IQ, Dual, 2-Phase Synchronous Step-Down Controller
VALUE2: LTC3857; SPICEMODEL: LTC3857.sub; SPICEPREFIX: X
footprint QFN32(UH)
pins: 1 SENSE1-, 2 FREQ, 3 PHASEMD, 4 CLKOUT, 5 PLLIN/MODE, 6 33 SGND, 7 RUN1, 8 RUN2, 9 SENSE2-, 10 SENSE2+, 11 VFB2, 12 ITH2, 13 TRACK/SS2, 14 PGOOD2, 15 TG2, 16 SW2, 17 BOOST2, 18 BG2, 19 INTVCC, 20 EXTVCC, 21 PGND, 22 VIN, 23 BG1, 24 BOOST1, 25 SW1, 26 TG1, 27 PGOOD1, 28 ILIM, 29 TRACK/SS1, 30 ITH1, 31 VFB1, 32 SENSE1+

## LTC3857-1
designator IC?, comment Low IQ, Dual, 2-Phase Synchronous Step-Down Controller
VALUE2: LTC3857-1; SPICEMODEL: LTC3857-1.sub; SPICEPREFIX: X
footprint SSOP28(GN)
pins: 1 ITH1, 2 VFB1, 3 SENSE1+, 4 SENSE1-, 5 FREQ, 6 PLLIN/MODE, 7 SGND, 8 RUN1, 9 RUN2, 10 SENSE2-, 11 SENSE2+, 12 VFB2, 13 ITH2, 14 TRACK/SS2, 15 TG2, 16 SW2, 17 BOOST2, 18 BG2, 19 INTVCC, 20 EXTVCC, 21 PGND, 22 VIN, 23 BG1, 24 BOOST1, 25 SW1, 26 TG1, 27 PGOOD1, 28 TRACK/SS1

## LTC3858
designator IC?, comment Low IQ, Dual 2-Phase Synchronous Step-Down Controller
VALUE2: LTC3858; SPICEMODEL: LTC3858.sub; SPICEPREFIX: X
footprint QFN32(UH)
pins: 1 SENSE1-, 2 FREQ, 3 PHASEMD, 4 CLKOUT, 5 PLLIN/MODE, 6 33 SGND, 7 RUN1, 8 RUN2, 9 SENSE2-, 10 SENSE2+, 11 VFB2, 12 ITH2, 13 SS2, 14 PGOOD2, 15 TG2, 16 SW2, 17 BOOST2, 18 BG2, 19 INTVCC, 20 EXTVCC, 21 PGND, 22 VIN, 23 BG1, 24 BOOST1, 25 SW1, 26 TG1, 27 PGOOD1, 28 ILIM, 29 SS1, 30 ITH1, 31 VFB1, 32 SENSE1+

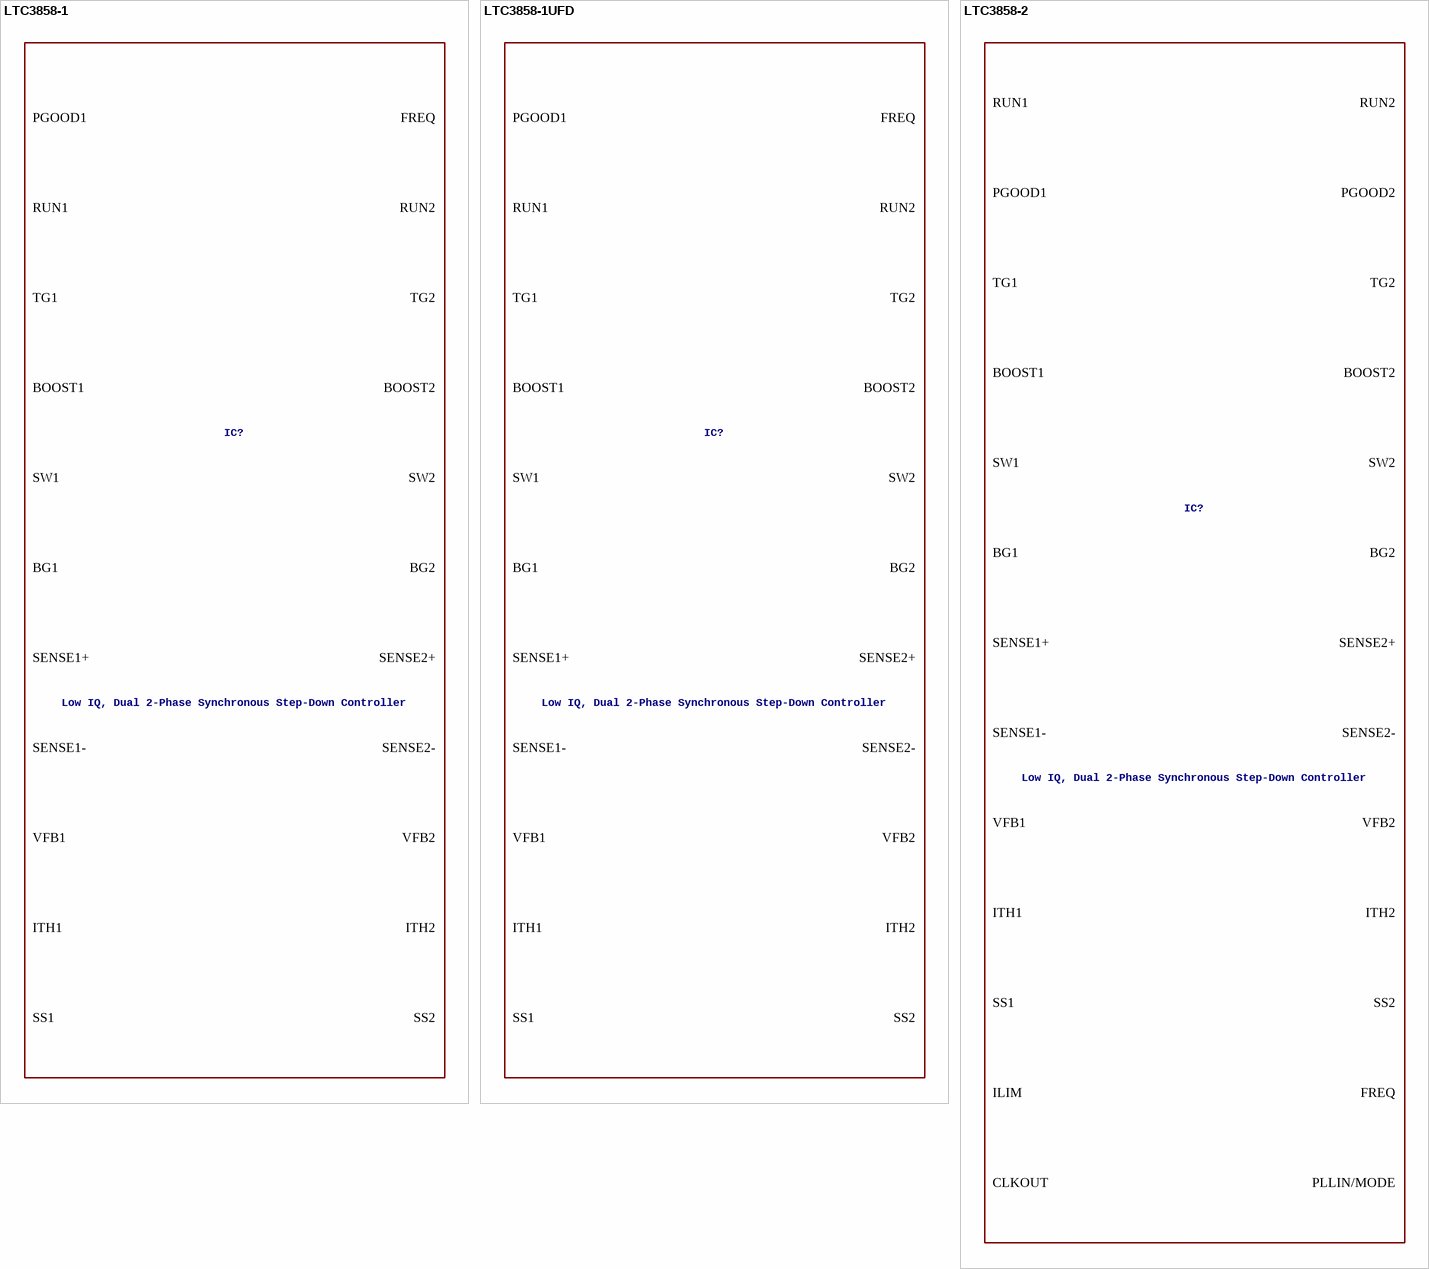
[diagram p103: symbols LTC3858-1 to LTC3858-2]

## LTC3858-1
designator IC?, comment Low IQ, Dual 2-Phase Synchronous Step-Down Controller
VALUE2: LTC3858-1; SPICEMODEL: LTC3858-1.sub; SPICEPREFIX: X
footprint SSOP28(GN)
pins: 1 ITH1, 2 VFB1, 3 SENSE1+, 4 SENSE1-, 5 FREQ, 6 PLLIN/MODE, 7 SGND, 8 RUN1, 9 RUN2, 10 SENSE2-, 11 SENSE2+, 12 VFB2, 13 ITH2, 14 SS2, 15 TG2, 16 SW2, 17 BOOST2, 18 BG2, 19 INTVCC, 20 EXTVCC, 21 PGND, 22 VIN, 23 BG1, 24 BOOST1, 25 SW1, 26 TG1, 27 PGOOD1, 28 SS1

## LTC3858-1UFD
designator IC?, comment Low IQ, Dual 2-Phase Synchronous Step-Down Controller
VALUE2: LTC3858-1; SPICEMODEL: LTC3858-1.sub; SPICEPREFIX: X
footprint QFN28(UFD)
pins: 1 SENSE1+, 2 SENSE1-, 3 FREQ, 4 PLLIN/MODE, 5 29 SGND, 6 RUN1, 7 RUN2, 8 SENSE2-, 9 SENSE2+, 10 VFB2, 11 ITH2, 12 SS2, 13 TG2, 14 SW2, 15 BOOST2, 16 BG2, 17 INTVCC, 18 EXTVCC, 19 PGND, 20 VIN, 21 BG1, 22 BOOST1, 23 SW1, 24 TG1, 25 PGOOD1, 26 SS1, 27 ITH1, 28 VFB1

## LTC3858-2
designator IC?, comment Low IQ, Dual 2-Phase Synchronous Step-Down Controller
VALUE2: LTC3858-2; SPICEMODEL: LTC3858-2.sub; SPICEPREFIX: X
footprint QFN32(UH)
pins: 1 SENSE1-, 2 FREQ, 3 PHASEMD, 4 CLKOUT, 5 PLLIN/MODE, 6 33 SGND, 7 RUN1, 8 RUN2, 9 SENSE2-, 10 SENSE2+, 11 VFB2, 12 ITH2, 13 SS2, 14 PGOOD2, 15 TG2, 16 SW2, 17 BOOST2, 18 BG2, 19 INTVCC, 20 EXTVCC, 21 PGND, 22 VIN, 23 BG1, 24 BOOST1, 25 SW1, 26 TG1, 27 PGOOD1, 28 ILIM, 29 SS1, 30 ITH1, 31 VFB1, 32 SENSE1+

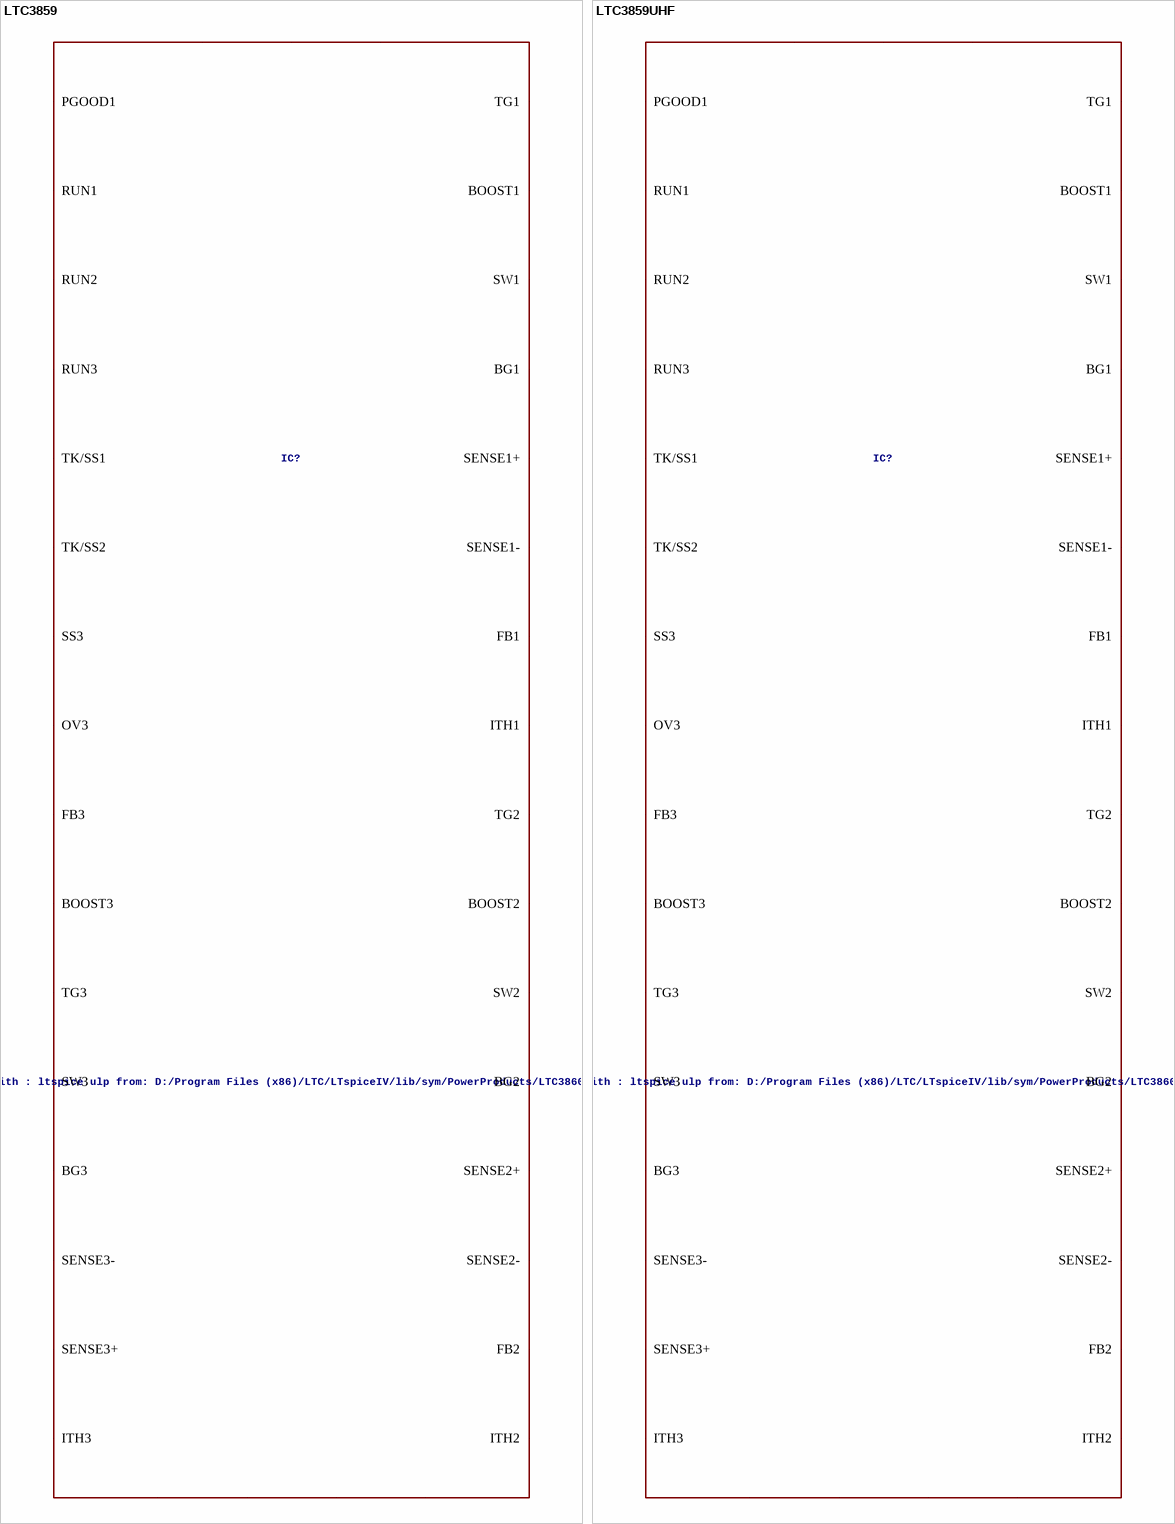
[diagram p104: symbols LTC3859 to LTC3859UHF]

## LTC3859
designator IC?, comment LT-Spice library generated with : ltspice.ulp from: D:/Program Files (x86)/LTC/LTspiceIV/lib/sym/PowerProducts/LTC3860*.asy at 07.10.2012 18:41:39
VALUE2: LTC3859; SPICEMODEL: LTC3859.sub; SPICEPREFIX: X
footprint TSSOP38AA(FE)
pins: 1 ITH1, 2 FB1, 3 SENSE1+, 4 SENSE1-, 5 FREQ, 6 PLLIN/MODE, 7 SS3, 8 SENSE3+, 9 SENSE3-, 10 FB3, 11 ITH3, 12 SGND, 13 RUN1, 14 RUN2, 15 RUN3, 16 SENSE2-, 17 SENSE2+, 18 FB2, 19 ITH2, 20 TK/SS2, 21 OV3, 22 TG2, 23 SW2, 24 BOOST2, 25 BG2, 26 INTVCC, 27 EXTVCC, 28 VBIAS, 29 BG3, 30 BOOST3, 31 TG3, 32 SW3, 33 BG1, 34 BOOST1, 35 SW1, 36 TG1, 37 PGOOD1, 38 TK/SS1, 39 PGND

## LTC3859UHF
designator IC?, comment LT-Spice library generated with : ltspice.ulp from: D:/Program Files (x86)/LTC/LTspiceIV/lib/sym/PowerProducts/LTC3860*.asy at 07.10.2012 18:41:39
VALUE2: LTC3859; SPICEMODEL: LTC3859.sub; SPICEPREFIX: X
footprint QFN38(UHF)
pins: 1 FREQ, 2 PLLIN/MODE, 3 SS3, 4 SENSE3+, 5 SENSE3-, 6 FB3, 7 ITH3, 8 SGND, 9 RUN1, 10 RUN2, 11 RUN3, 12 SENSE2-, 13 SENSE2+, 14 FB2, 15 ITH2, 16 TK/SS2, 17 OV3, 18 TG2, 19 SW2, 20 BOOST2, 21 BG2, 22 INTVCC, 23 EXTVCC, 24 VBIAS, 25 BG3, 26 BOOST3, 27 TG3, 28 SW3, 29 BG1, 30 BOOST1, 31 SW1, 32 TG1, 33 PGOOD1, 34 TK/SS1, 35 ITH1, 36 FB1, 37 SENSE1+, 38 SENSE1-, 39 PGND

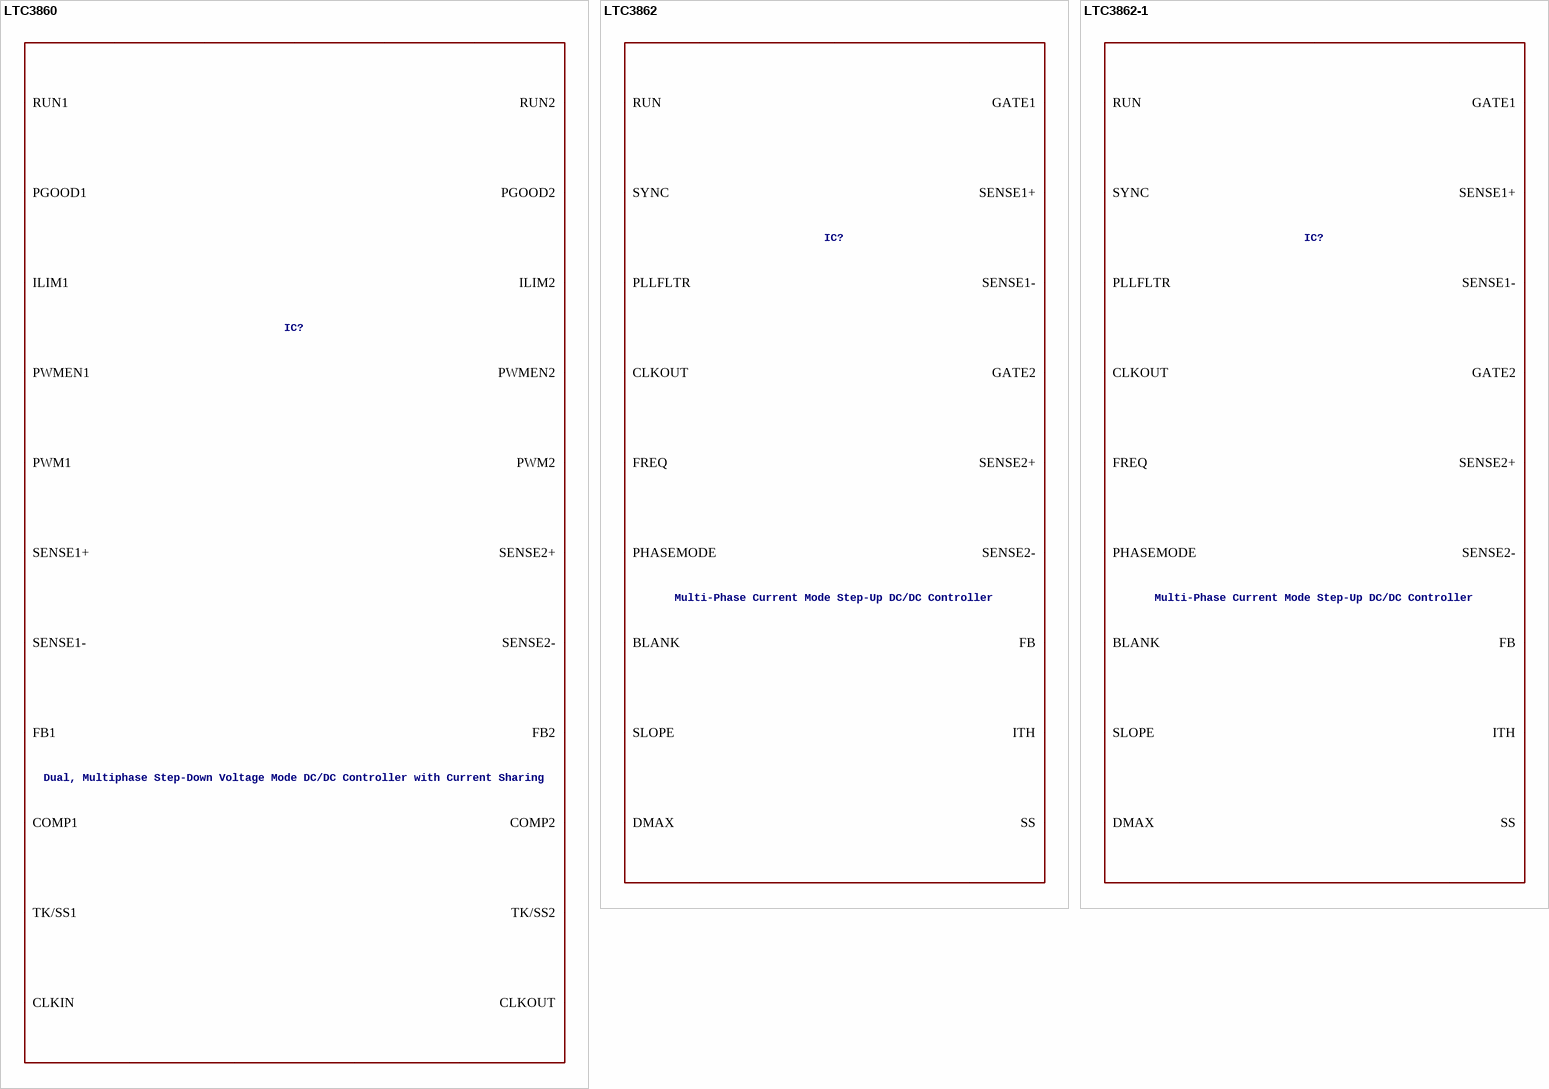
[diagram p105: symbols LTC3860 to LTC3862-1]

## LTC3860
designator IC?, comment Dual, Multiphase Step-Down Voltage Mode DC/DC Controller with Current Sharing
VALUE2: LTC3860; SPICEMODEL: LTC3860.sub; SPICEPREFIX: X
footprint QFN32(UH)
pins: 1 VCC, 2 FB1, 3 COMP1, 4 VSNSOUT, 5 VSNSN, 6 VSNSP, 7 COMP2, 8 FB2, 9 TK/SS2, 10 FREQ, 11 CLKIN, 12 CLKOUT, 13 PHASEMD, 14 PGOOD2, 15 PWMEN2, 16 PWM2, 17 RUN2, 18 ILIM2, 19 SENSE2+, 20 SENSE2-, 21 SENSE1-, 22 SENSE1+, 23 ILIM1, 24 RUN1, 25 PWM1, 26 PWMEN1, 27 PGOOD1, 28 IAVG, 29 30 33 SGND, 31 VINSNS, 32 TK/SS1

## LTC3862
designator IC?, comment Multi-Phase Current Mode Step-Up DC/DC Controller
VALUE2: LTC3862; SPICEMODEL: LTC3862.sub; SPICEPREFIX: X
footprint TSSOP24AA(FE)
pins: 1 DMAX, 2 SLOPE, 3 BLANK, 4 PHASEMODE, 5 FREQ, 6 SS, 7 ITH, 8 FB, 9 SGND, 10 CLKOUT, 11 SYNC, 12 PLLFLTR, 13 SENSE2+, 14 SENSE2-, 16 GATE2, 17 25 PGND, 18 GATE1, 19 INTVCC, 20 VIN, 21 RUN, 22 SENSE1-, 23 SENSE1+, 24 3V8

## LTC3862-1
designator IC?, comment Multi-Phase Current Mode Step-Up DC/DC Controller
VALUE2: LTC3862-1; SPICEMODEL: LTC3862-1.sub; SPICEPREFIX: X
footprint TSSOP24AA(FE)
pins: 1 DMAX, 2 SLOPE, 3 BLANK, 4 PHASEMODE, 5 FREQ, 6 SS, 7 ITH, 8 FB, 9 SGND, 10 CLKOUT, 11 SYNC, 12 PLLFLTR, 13 SENSE2+, 14 SENSE2-, 16 GATE2, 17 25 PGND, 18 GATE1, 19 INTVCC, 20 VIN, 21 RUN, 22 SENSE1-, 23 SENSE1+, 24 3V8

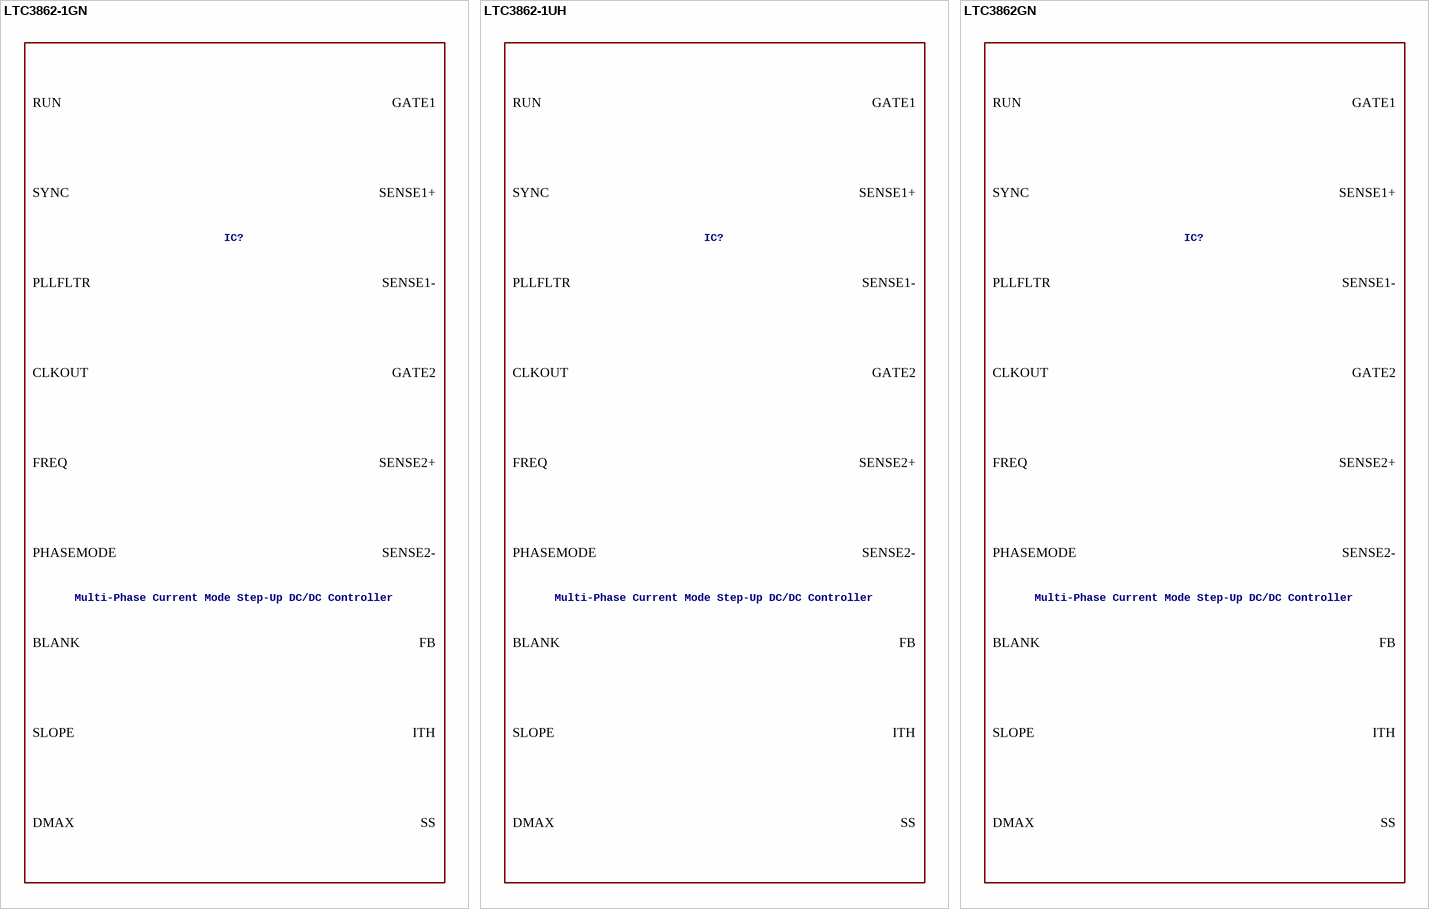
[diagram p106: symbols LTC3862-1GN to LTC3862GN]

## LTC3862-1GN
designator IC?, comment Multi-Phase Current Mode Step-Up DC/DC Controller
VALUE2: LTC3862-1; SPICEMODEL: LTC3862-1.sub; SPICEPREFIX: X
footprint SSOP24(GN)
pins: 1 DMAX, 2 SLOPE, 3 BLANK, 4 PHASEMODE, 5 FREQ, 6 SS, 7 ITH, 8 FB, 9 SGND, 10 CLKOUT, 11 SYNC, 12 PLLFLTR, 13 SENSE2+, 14 SENSE2-, 16 GATE2, 17 PGND, 18 GATE1, 19 INTVCC, 20 VIN, 21 RUN, 22 SENSE1-, 23 SENSE1+, 24 3V8

## LTC3862-1UH
designator IC?, comment Multi-Phase Current Mode Step-Up DC/DC Controller
VALUE2: LTC3862-1; SPICEMODEL: LTC3862-1.sub; SPICEPREFIX: X
footprint QFN24(UH)
pins: 1 BLANK, 2 PHASEMODE, 3 FREQ, 4 SS, 5 ITH, 6 FB, 7 SGND, 8 CLKOUT, 9 SYNC, 10 PLLFLTR, 11 SENSE2+, 12 SENSE2-, 14 GATE2, 15 25 PGND, 16 GATE1, 17 INTVCC, 18 VIN, 19 RUN, 20 SENSE1-, 21 SENSE1+, 22 3V8, 23 DMAX, 24 SLOPE

## LTC3862GN
designator IC?, comment Multi-Phase Current Mode Step-Up DC/DC Controller
VALUE2: LTC3862; SPICEMODEL: LTC3862.sub; SPICEPREFIX: X
footprint SSOP24(GN)
pins: 1 DMAX, 2 SLOPE, 3 BLANK, 4 PHASEMODE, 5 FREQ, 6 SS, 7 ITH, 8 FB, 9 SGND, 10 CLKOUT, 11 SYNC, 12 PLLFLTR, 13 SENSE2+, 14 SENSE2-, 16 GATE2, 17 PGND, 18 GATE1, 19 INTVCC, 20 VIN, 21 RUN, 22 SENSE1-, 23 SENSE1+, 24 3V8

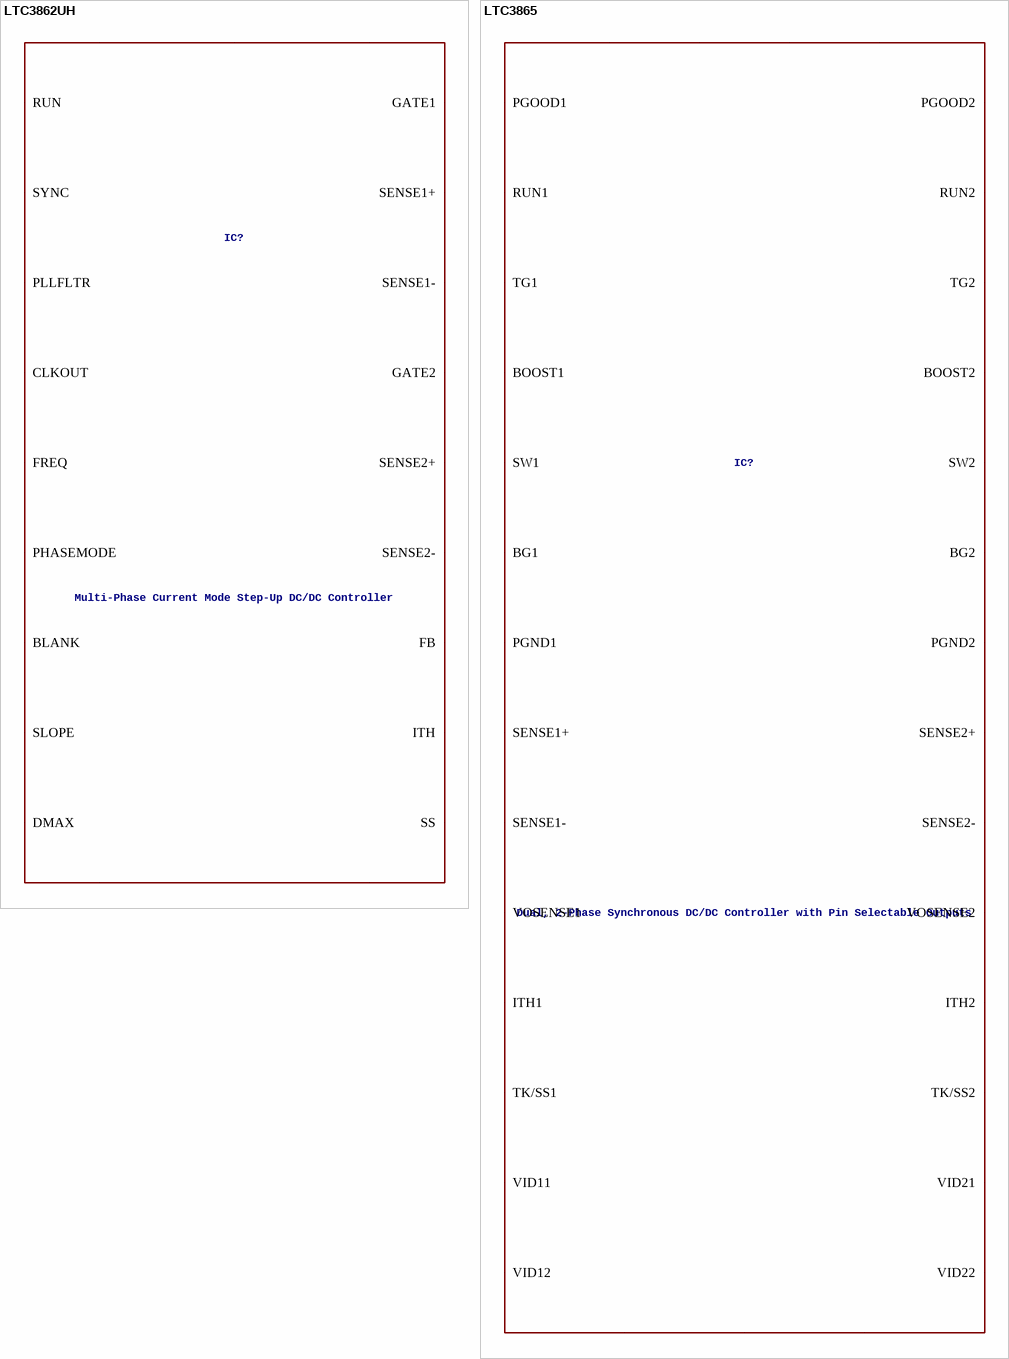
[diagram p107: symbols LTC3862UH to LTC3865]

## LTC3862UH
designator IC?, comment Multi-Phase Current Mode Step-Up DC/DC Controller
VALUE2: LTC3862; SPICEMODEL: LTC3862.sub; SPICEPREFIX: X
footprint QFN24(UH)
pins: 1 BLANK, 2 PHASEMODE, 3 FREQ, 4 SS, 5 ITH, 6 FB, 7 SGND, 8 CLKOUT, 9 SYNC, 10 PLLFLTR, 11 SENSE2+, 12 SENSE2-, 14 GATE2, 15 25 PGND, 16 GATE1, 17 INTVCC, 18 VIN, 19 RUN, 20 SENSE1-, 21 SENSE1+, 22 3V8, 23 DMAX, 24 SLOPE

## LTC3865
designator IC?, comment Dual, 2-Phase Synchronous DC/DC Controller with Pin Selectable Outputs
VALUE2: LTC3865; SPICEMODEL: LTC3865.sub; SPICEPREFIX: X
footprint TSSOP38AA(FE)
pins: 1 RUN1, 2 SENSE1+, 3 SENSE1-, 5 VOSENSE1, 6 TK/SS1, 7 ITH1, 8 39 SGND, 9 VID11, 10 VID12, 11 ITH2, 12 TK/SS2, 13 VOSENSE2, 15 SENSE2-, 16 SENSE2+, 17 RUN2, 18 VID21, 19 ILIM, 20 PGOOD2, 21 PGOOD1, 22 SW2, 23 TG2, 25 BOOST2, 26 PGND2, 27 BG2, 28 EXTVCC, 29 INTVCC, 30 VIN, 31 BG1, 32 PGND1, 33 BOOST1, 34 TG1, 35 SW1, 36 PLLIN/MODE, 37 VID22, 38 FREQ

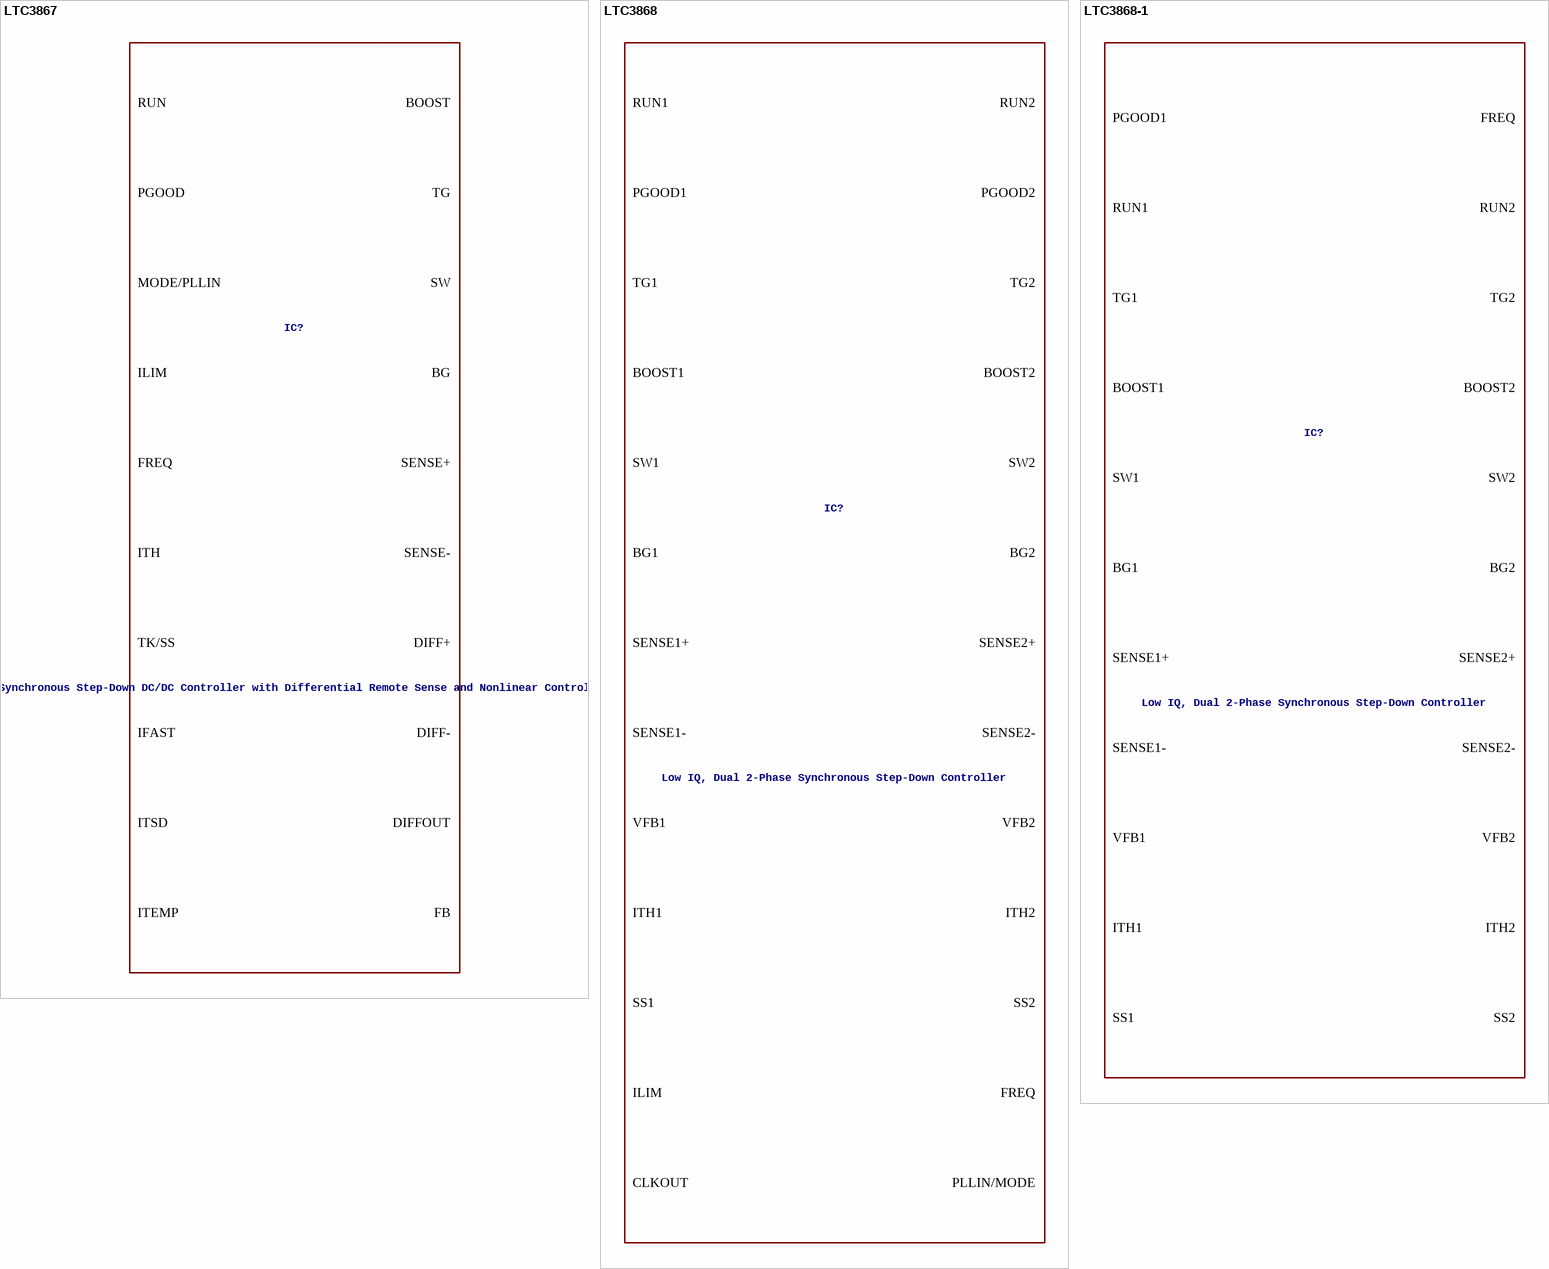
[diagram p108: symbols LTC3867 to LTC3868-1]

## LTC3867
designator IC?, comment Synchronous Step-Down DC/DC Controller with Differential Remote Sense and Nonlinear Control
VALUE2: LTC3867; SPICEMODEL: LTC3867.sub; SPICEPREFIX: X
footprint QFN24(UF)
pins: 1 RUN, 2 DIFF+, 3 DIFF-, 4 DIFFOUT, 5 FB, 6 ITH, 7 IFAST, 8 TK/SS, 9 SENSE+, 10 SENSE-, 11 ILIM, 12 ITSD, 13 ITEMP, 14 EXTVCC, 15 VIN, 16 INTVCC, 17 BG, 18 PGND, 19 SW, 20 TG, 21 BOOST, 22 PGOOD, 23 MODE/PLLIN, 24 FREQ, 25 SGND

## LTC3868
designator IC?, comment Low IQ, Dual 2-Phase Synchronous Step-Down Controller
VALUE2: LTC3868; SPICEMODEL: LTC3868.sub; SPICEPREFIX: X
footprint QFN32(UH)
pins: 1 SENSE1-, 2 FREQ, 3 PHASEMD, 4 CLKOUT, 5 PLLIN/MODE, 6 33 SGND, 7 RUN1, 8 RUN2, 9 SENSE2-, 10 SENSE2+, 11 VFB2, 12 ITH2, 13 SS2, 14 PGOOD2, 15 TG2, 16 SW2, 17 BOOST2, 18 BG2, 19 INTVCC, 20 EXTVCC, 21 PGND, 22 VIN, 23 BG1, 24 BOOST1, 25 SW1, 26 TG1, 27 PGOOD1, 28 ILIM, 29 SS1, 30 ITH1, 31 VFB1, 32 SENSE1+

## LTC3868-1
designator IC?, comment Low IQ, Dual 2-Phase Synchronous Step-Down Controller
VALUE2: LTC3868-1; SPICEMODEL: LTC3868-1.sub; SPICEPREFIX: X
footprint SSOP28(GN)
pins: 1 ITH1, 2 VFB1, 3 SENSE1+, 4 SENSE1-, 5 FREQ, 6 PLLIN/MODE, 7 SGND, 8 RUN1, 9 RUN2, 10 SENSE2-, 11 SENSE2+, 12 VFB2, 13 ITH2, 14 SS2, 15 TG2, 16 SW2, 17 BOOST2, 18 BG2, 19 INTVCC, 20 EXTVCC, 21 PGND, 22 VIN, 23 BG1, 24 BOOST1, 25 SW1, 26 TG1, 27 PGOOD1, 28 SS1

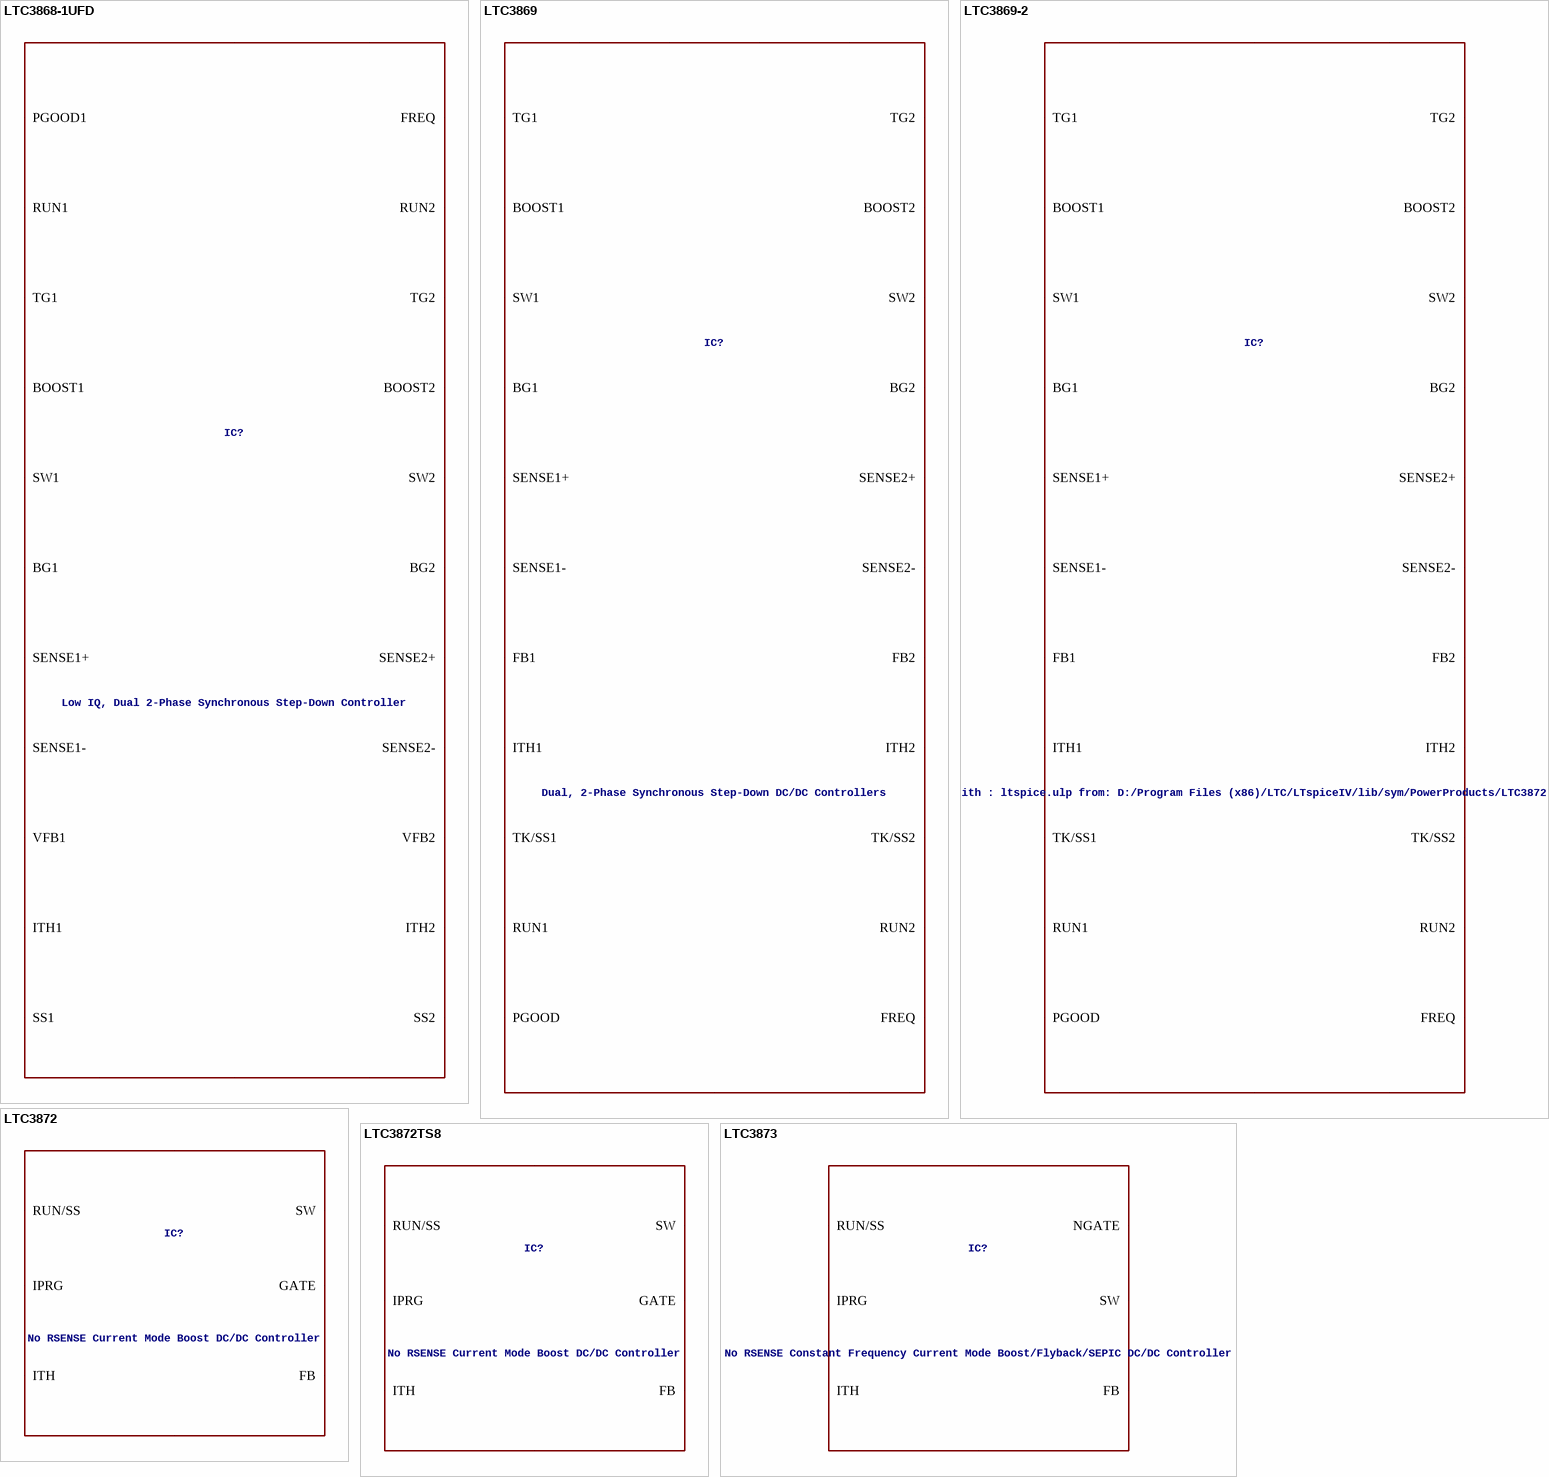
[diagram p109: symbols LTC3868-1UFD to LTC3873]

## LTC3868-1UFD
designator IC?, comment Low IQ, Dual 2-Phase Synchronous Step-Down Controller
VALUE2: LTC3868-1; SPICEMODEL: LTC3868-1.sub; SPICEPREFIX: X
footprint QFN28(UFD)
pins: 1 SENSE1+, 2 SENSE1-, 3 FREQ, 4 PLLIN/MODE, 5 29 SGND, 6 RUN1, 7 RUN2, 8 SENSE2-, 9 SENSE2+, 10 VFB2, 11 ITH2, 12 SS2, 13 TG2, 14 SW2, 15 BOOST2, 16 BG2, 17 INTVCC, 18 EXTVCC, 19 PGND, 20 VIN, 21 BG1, 22 BOOST1, 23 SW1, 24 TG1, 25 PGOOD1, 26 SS1, 27 ITH1, 28 VFB1

## LTC3869
designator IC?, comment Dual, 2-Phase Synchronous Step-Down DC/DC Controllers
VALUE2: LTC3869; SPICEMODEL: LTC3869.sub; SPICEPREFIX: X
footprint QFN28(UFD)
pins: 1 SENSE1-, 2 TK/SS1, 3 ITH1, 4 FB1, 5 FB2, 6 ITH2, 7 TK/SS2, 8 SENSE2-, 9 SENSE2+, 10 RUN2, 11 ILIM, 12 EXTVCC, 13 PGOOD, 14 SW2, 15 TG2, 16 BOOST2, 17 PGND, 18 BG2, 19 INTVCC, 20 VIN, 21 BG1, 22 BOOST1, 23 TG1, 24 SW1, 25 MODE/PLLIN, 26 FREQ, 27 RUN1, 28 SENSE1+, 29 SGND

## LTC3869-2
designator IC?, comment LT-Spice library generated with : ltspice.ulp from: D:/Program Files (x86)/LTC/LTspiceIV/lib/sym/PowerProducts/LTC3872*.asy at 07.10.2012 18:42:08
VALUE2: LTC3869-2; SPICEMODEL: LTC3869-2.sub; SPICEPREFIX: X
footprint SSOP28(GN)
pins: 1 RUN1, 2 SENSE1+, 3 SENSE1-, 4 FB1, 5 TK/SS1, 6 ITH1, 7 SGND, 8 ITH2, 9 TK/SS2, 10 FB2, 11 SENSE2-, 12 SENSE2+, 13 RUN2, 14 EXTVCC, 15 PGOOD, 16 SW2, 17 TG2, 18 BOOST2, 19 PGND, 20 BG2, 21 INTVCC, 22 VIN, 23 BG1, 24 BOOST1, 25 TG1, 26 SW1, 27 MODE/PLLIN, 28 FREQ

## LTC3872
designator IC?, comment No RSENSE Current Mode Boost DC/DC Controller
VALUE2: LTC3872; SPICEMODEL: LTC3872.sub; SPICEPREFIX: X
footprint DFN8(DDB)
pins: 1 9 GND, 2 FB, 3 ITH, 4 IPRG, 5 SW, 6 RUN/SS, 7 VIN, 8 GATE

## LTC3872TS8
designator IC?, comment No RSENSE Current Mode Boost DC/DC Controller
VALUE2: LTC3872; SPICEMODEL: LTC3872.sub; SPICEPREFIX: X
footprint SOT8(TS8)
pins: 1 IPRG, 2 ITH, 3 FB, 4 GND, 5 GATE, 6 VIN, 7 RUN/SS, 8 SW

## LTC3873
designator IC?, comment No RSENSE Constant Frequency Current Mode Boost/Flyback/SEPIC DC/DC Controller
VALUE2: LTC3873; SPICEMODEL: LTC3873.sub; SPICEPREFIX: X
footprint DFN8(DDB)
pins: 1 9 GND, 2 FB, 3 ITH, 4 IPRG, 5 SW, 6 RUN/SS, 7 VCC, 8 NGATE

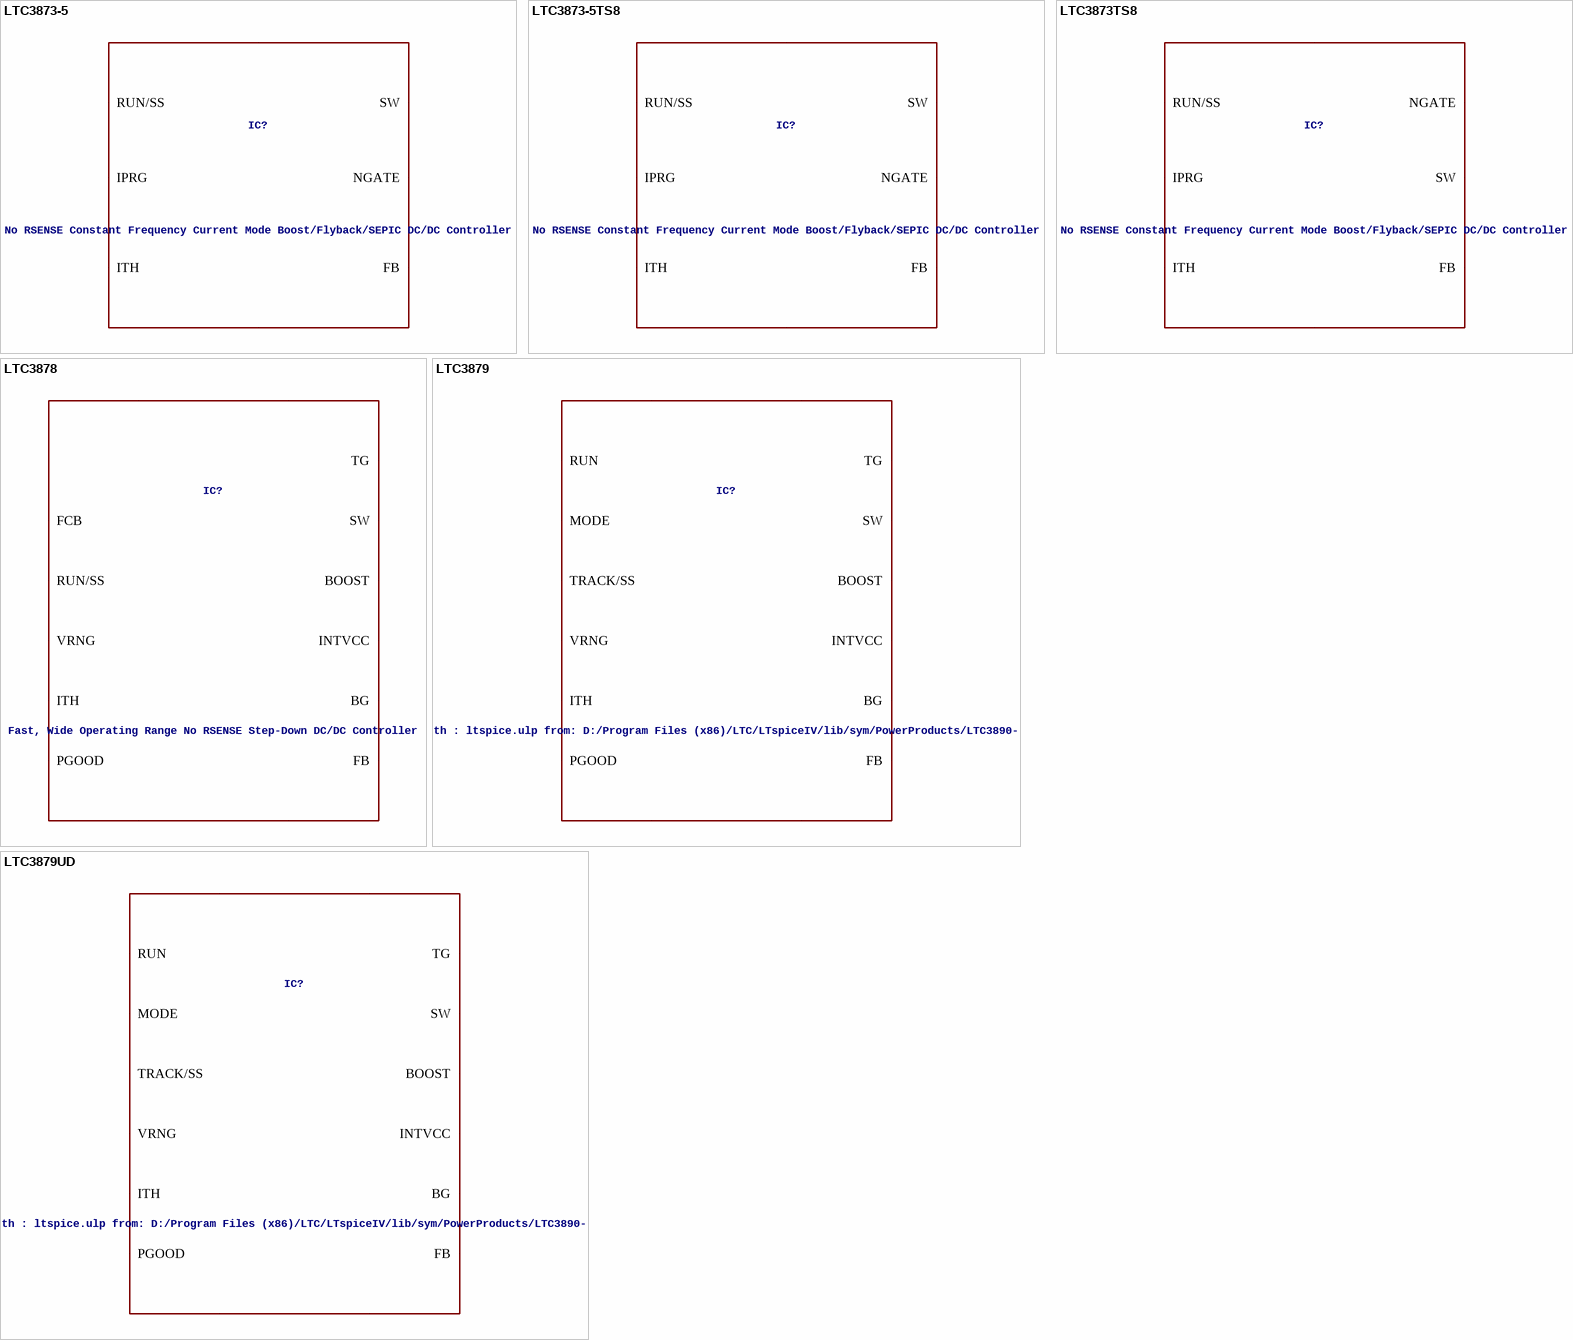
[diagram p110: symbols LTC3873-5 to LTC3879UD]

## LTC3873-5
designator IC?, comment No RSENSE Constant Frequency Current Mode Boost/Flyback/SEPIC DC/DC Controller
VALUE2: LTC3873-5; SPICEMODEL: LTC3873-5.sub; SPICEPREFIX: X
footprint DFN8(DDB)
pins: 1 9 GND, 2 FB, 3 ITH, 4 IPRG, 5 SW, 6 RUN/SS, 7 VCC, 8 NGATE

## LTC3873-5TS8
designator IC?, comment No RSENSE Constant Frequency Current Mode Boost/Flyback/SEPIC DC/DC Controller
VALUE2: LTC3873-5; SPICEMODEL: LTC3873-5.sub; SPICEPREFIX: X
footprint SOT8(TS8)
pins: 1 IPRG, 2 ITH, 3 FB, 4 GND, 5 NGATE, 6 VCC, 7 RUN/SS, 8 SW

## LTC3873TS8
designator IC?, comment No RSENSE Constant Frequency Current Mode Boost/Flyback/SEPIC DC/DC Controller
VALUE2: LTC3873; SPICEMODEL: LTC3873.sub; SPICEPREFIX: X
footprint SOT8(TS8)
pins: 1 IPRG, 2 ITH, 3 FB, 4 GND, 5 NGATE, 6 VCC, 7 RUN/SS, 8 SW

## LTC3878
designator IC?, comment Fast, Wide Operating Range No RSENSE Step-Down DC/DC Controller
VALUE2: LTC3878; SPICEMODEL: LTC3878.sub; SPICEPREFIX: X
footprint SSOP16(GN)
pins: 1 RUN/SS, 2 PGOOD, 3 VRNG, 4 FCB, 5 ITH, 6 GND, 7 ION, 8 FB, 10 VIN, 11 INTVCC, 12 BG, 13 PGND, 14 SW, 15 TG, 16 BOOST

## LTC3879
designator IC?, comment LT-Spice library generated with : ltspice.ulp from: D:/Program Files (x86)/LTC/LTspiceIV/lib/sym/PowerProducts/LTC3890-1*.asy at 07.10.2012 18:42:44
VALUE2: LTC3879; SPICEMODEL: LTC3879.sub; SPICEPREFIX: X
footprint MSOP16(MSE)
pins: 1 TRACK/SS, 2 PGOOD, 3 VRNG, 4 MODE, 5 ITH, 6 17 GND, 7 ION, 8 FB, 9 RUN, 10 VIN, 11 INTVCC, 12 BG, 13 PGND, 14 SW, 15 TG, 16 BOOST

## LTC3879UD
designator IC?, comment LT-Spice library generated with : ltspice.ulp from: D:/Program Files (x86)/LTC/LTspiceIV/lib/sym/PowerProducts/LTC3890-1*.asy at 07.10.2012 18:42:44
VALUE2: LTC3879; SPICEMODEL: LTC3879.sub; SPICEPREFIX: X
footprint QFN16(UD)
pins: 1 TRACK/SS, 2 PGOOD, 3 VRNG, 4 MODE, 5 ITH, 6 17 GND, 7 ION, 8 FB, 9 RUN, 10 VIN, 11 INTVCC, 12 BG, 13 PGND, 14 SW, 15 TG, 16 BOOST

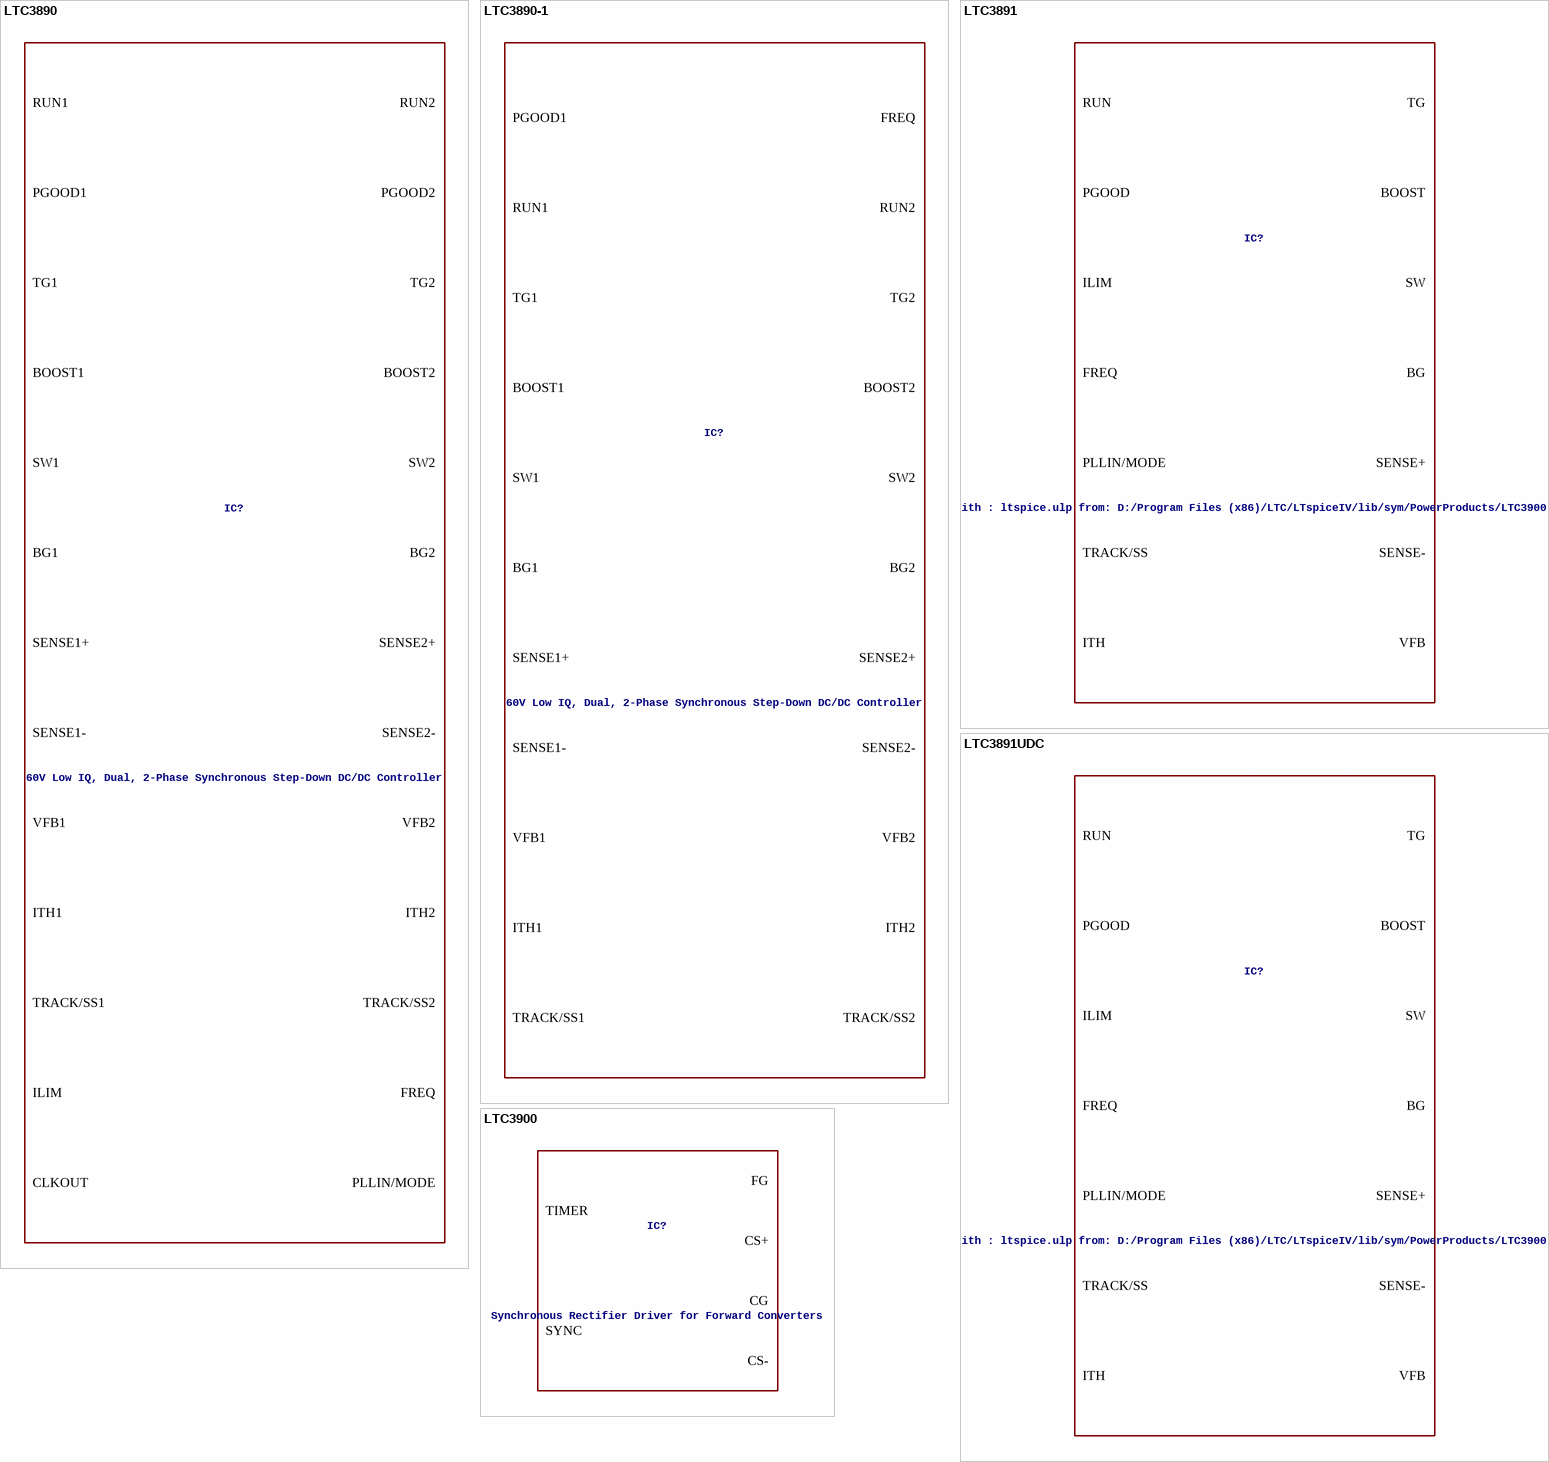
[diagram p111: symbols LTC3890 to LTC3900]

## LTC3890
designator IC?, comment 60V Low IQ, Dual, 2-Phase Synchronous Step-Down DC/DC Controller
VALUE2: LTC3890; SPICEMODEL: LTC3890.sub; SPICEPREFIX: X
footprint QFN32(UH)
pins: 1 SENSE1-, 2 FREQ, 3 PHASEMD, 4 CLKOUT, 5 PLLIN/MODE, 6 33 SGND, 7 RUN1, 8 RUN2, 9 SENSE2-, 10 SENSE2+, 11 VFB2, 12 ITH2, 13 TRACK/SS2, 14 PGOOD2, 15 TG2, 16 SW2, 17 BOOST2, 18 BG2, 19 INTVCC, 20 EXTVCC, 21 PGND, 22 VIN, 23 BG1, 24 BOOST1, 25 SW1, 26 TG1, 27 PGOOD1, 28 ILIM, 29 TRACK/SS1, 30 ITH1, 31 VFB1, 32 SENSE1+

## LTC3890-1
designator IC?, comment 60V Low IQ, Dual, 2-Phase Synchronous Step-Down DC/DC Controller
VALUE2: LTC3890-1; SPICEMODEL: LTC3890-1.sub; SPICEPREFIX: X
footprint SSOP28(GN)
pins: 1 ITH1, 2 VFB1, 3 SENSE1+, 4 SENSE1-, 5 FREQ, 6 PLLIN/MODE, 7 SGND, 8 RUN1, 9 RUN2, 10 SENSE2-, 11 SENSE2+, 12 VFB2, 13 ITH2, 14 TRACK/SS2, 15 TG2, 16 SW2, 17 BOOST2, 18 BG2, 19 INTVCC, 20 EXTVCC, 21 PGND, 22 VIN, 23 BG1, 24 BOOST1, 25 SW1, 26 TG1, 27 PGOOD1, 28 TRACK/SS1

## LTC3891
designator IC?, comment LT-Spice library generated with : ltspice.ulp from: D:/Program Files (x86)/LTC/LTspiceIV/lib/sym/PowerProducts/LTC3900*.asy at 07.10.2012 18:43:02
VALUE2: LTC3891; SPICEMODEL: LTC3891.sub; SPICEPREFIX: X
footprint TSSOP20CB(FE)
pins: 1 TRACK/SS, 2 FREQ, 3 PLLIN/MODE, 4 5 21 SGND, 6 RUN, 7 SENSE-, 8 SENSE+, 9 VFB, 10 ITH, 11 PGOOD, 12 TG, 13 SW, 14 BOOST, 15 BG, 16 INTVCC, 17 EXTVCC, 18 PGND, 19 VIN, 20 ILIM

## LTC3891UDC
designator IC?, comment LT-Spice library generated with : ltspice.ulp from: D:/Program Files (x86)/LTC/LTspiceIV/lib/sym/PowerProducts/LTC3900*.asy at 07.10.2012 18:43:02
VALUE2: LTC3891; SPICEMODEL: LTC3891.sub; SPICEPREFIX: X
footprint QFN20(UDC)
pins: 1 PLLIN/MODE, 2 3 21 SGND, 4 RUN, 5 SENSE-, 6 SENSE+, 7 VFB, 8 ITH, 9 PGOOD, 10 TG, 11 SW, 12 BOOST, 13 BG, 14 INTVCC, 15 EXTVCC, 16 PGND, 17 VIN, 18 ILIM, 19 TRACK/SS, 20 FREQ

## LTC3900
designator IC?, comment Synchronous Rectifier Driver for Forward Converters
VALUE2: LTC3900; SPICEMODEL: LTC3900.sub; SPICEPREFIX: X
footprint SO8(S8)
pins: 1 CS+, 2 CS-, 3 CG, 4 VCC, 5 FG, 6 GND, 7 TIMER, 8 SYNC